# Altium integrated library Zilog Z8 Encore.IntLib: 188 symbols (part 2 of 5)
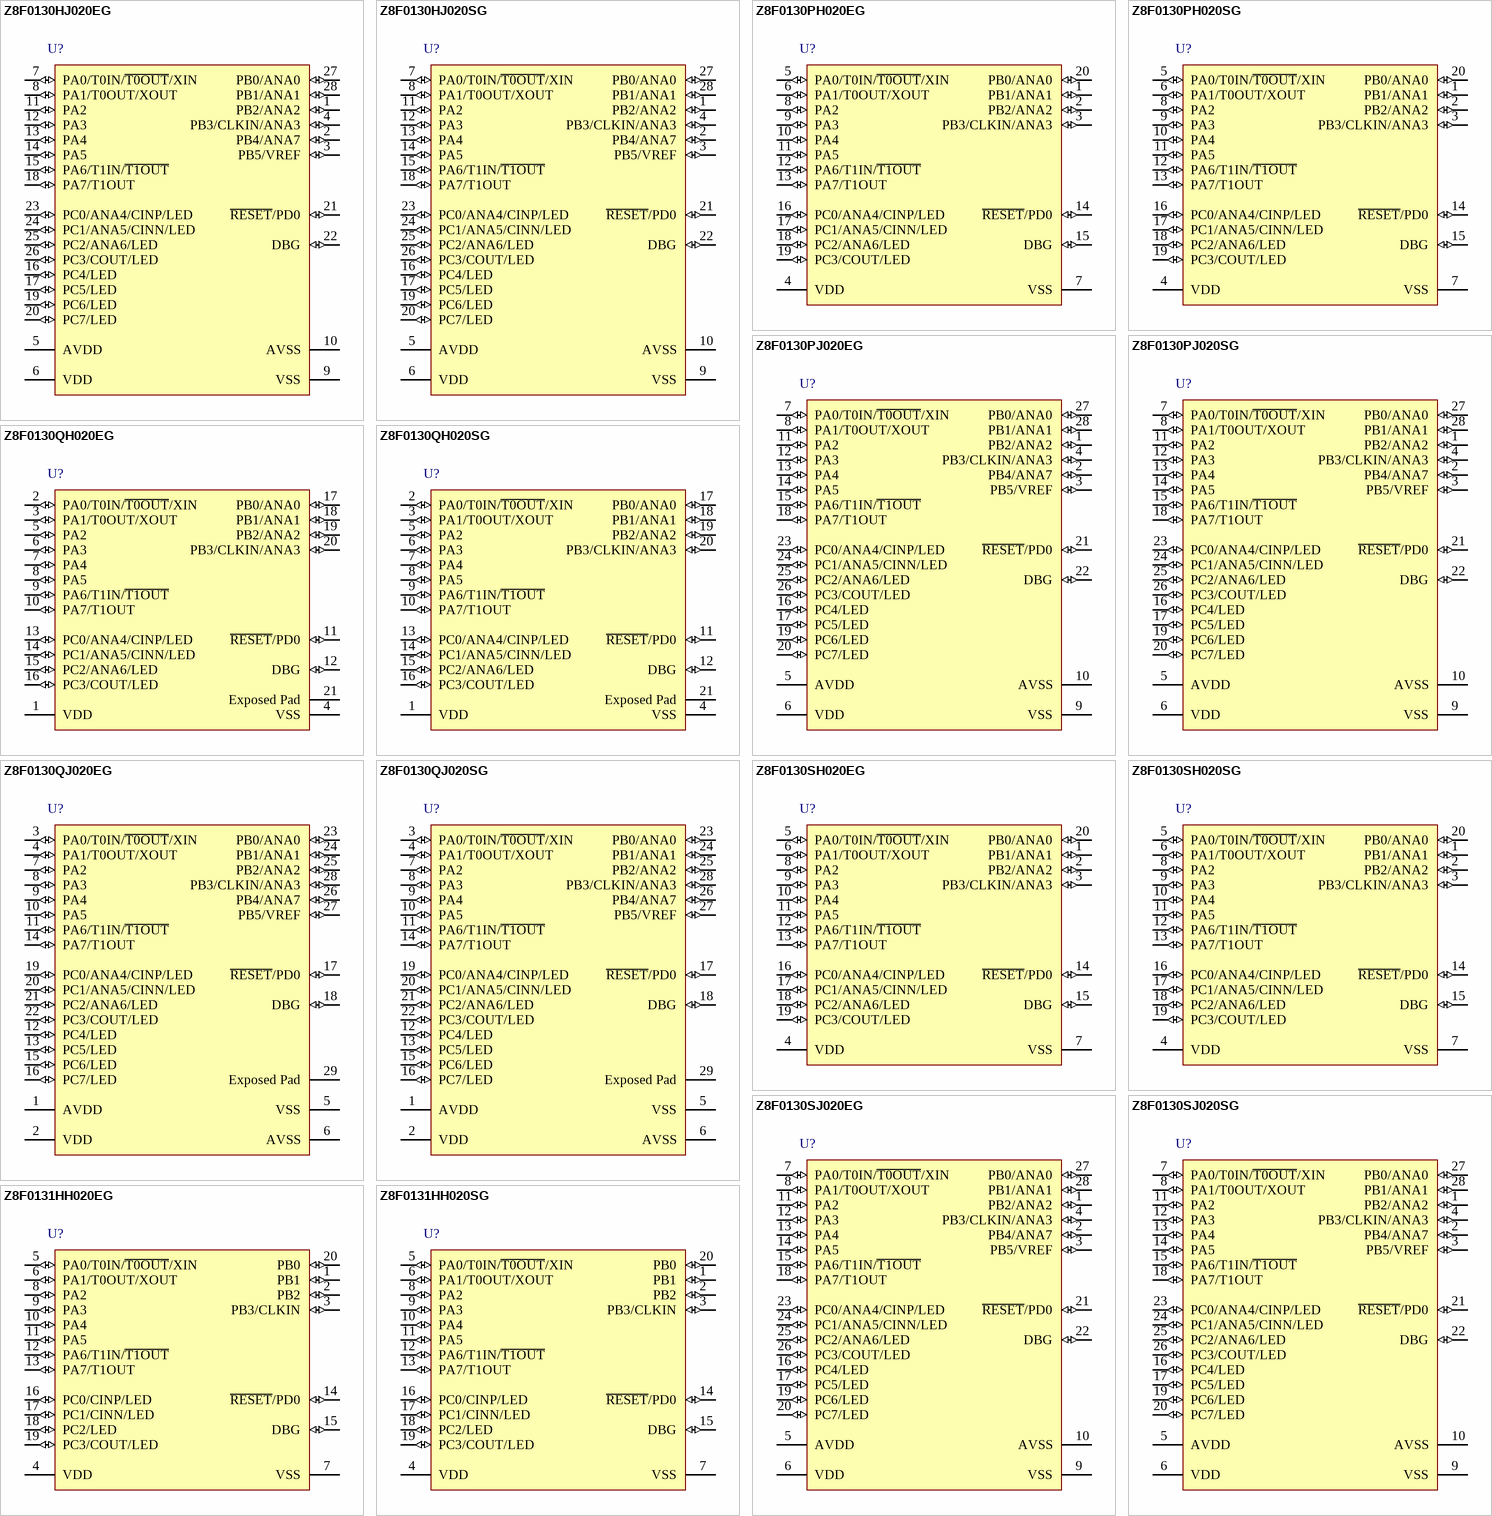
[diagram p12: symbols Z8F0130HJ020EG to Z8F0131HH020SG]

## Z8F0131HH020SG
designator U?
Z8 Encore, F0830 Series, 1KB Flash RAM, 256B register RAM, 64B NVDS, 20-Pin SSOP, 0°C to 70°C, Pb-Free; DatasheetVersion: rev11, Dec-2007; PackageVersion: 1/12/2007; PackageReference: SSOP20; PackageDescription: 20-Pin Plastic Shrink Small Outline Package 0.65 mm Pitch; ComponentLink1Description: Manufacturer URL; ComponentLink1URL: http://www.zilog.com/
footprint SSOP20_N (SOP, 20-Leads, Body 7.2x5.29mm, Pitch 0.65mm, IPC Medium Density)
footprint SSOP20_L (SOP, 20-Leads, Body 7.2x5.29mm, Pitch 0.65mm, IPC High Density)
footprint SSOP20_M (SOP, 20-Leads, Body 7.2x5.29mm, Pitch 0.65mm, IPC Low Density)
pins: 1 PB1 (io), 2 PB2 (io), 3 PB3/CLKIN (io), 4 VDD (power), 5 PA0/T0IN/~{T0OUT}/XIN (io), 6 PA1/T0OUT/XOUT (io), 7 VSS (power), 8 PA2 (io), 9 PA3 (io), 10 PA4 (io), 11 PA5 (io), 12 PA6/T1IN/~{T1OUT} (io), 13 PA7/T1OUT (io), 14 ~{RESET}/PD0 (io), 15 DBG (io), 16 PC0/CINP/LED (io), 17 PC1/CINN/LED (io), 18 PC2/LED (io), 19 PC3/COUT/LED (io), 20 PB0 (io)

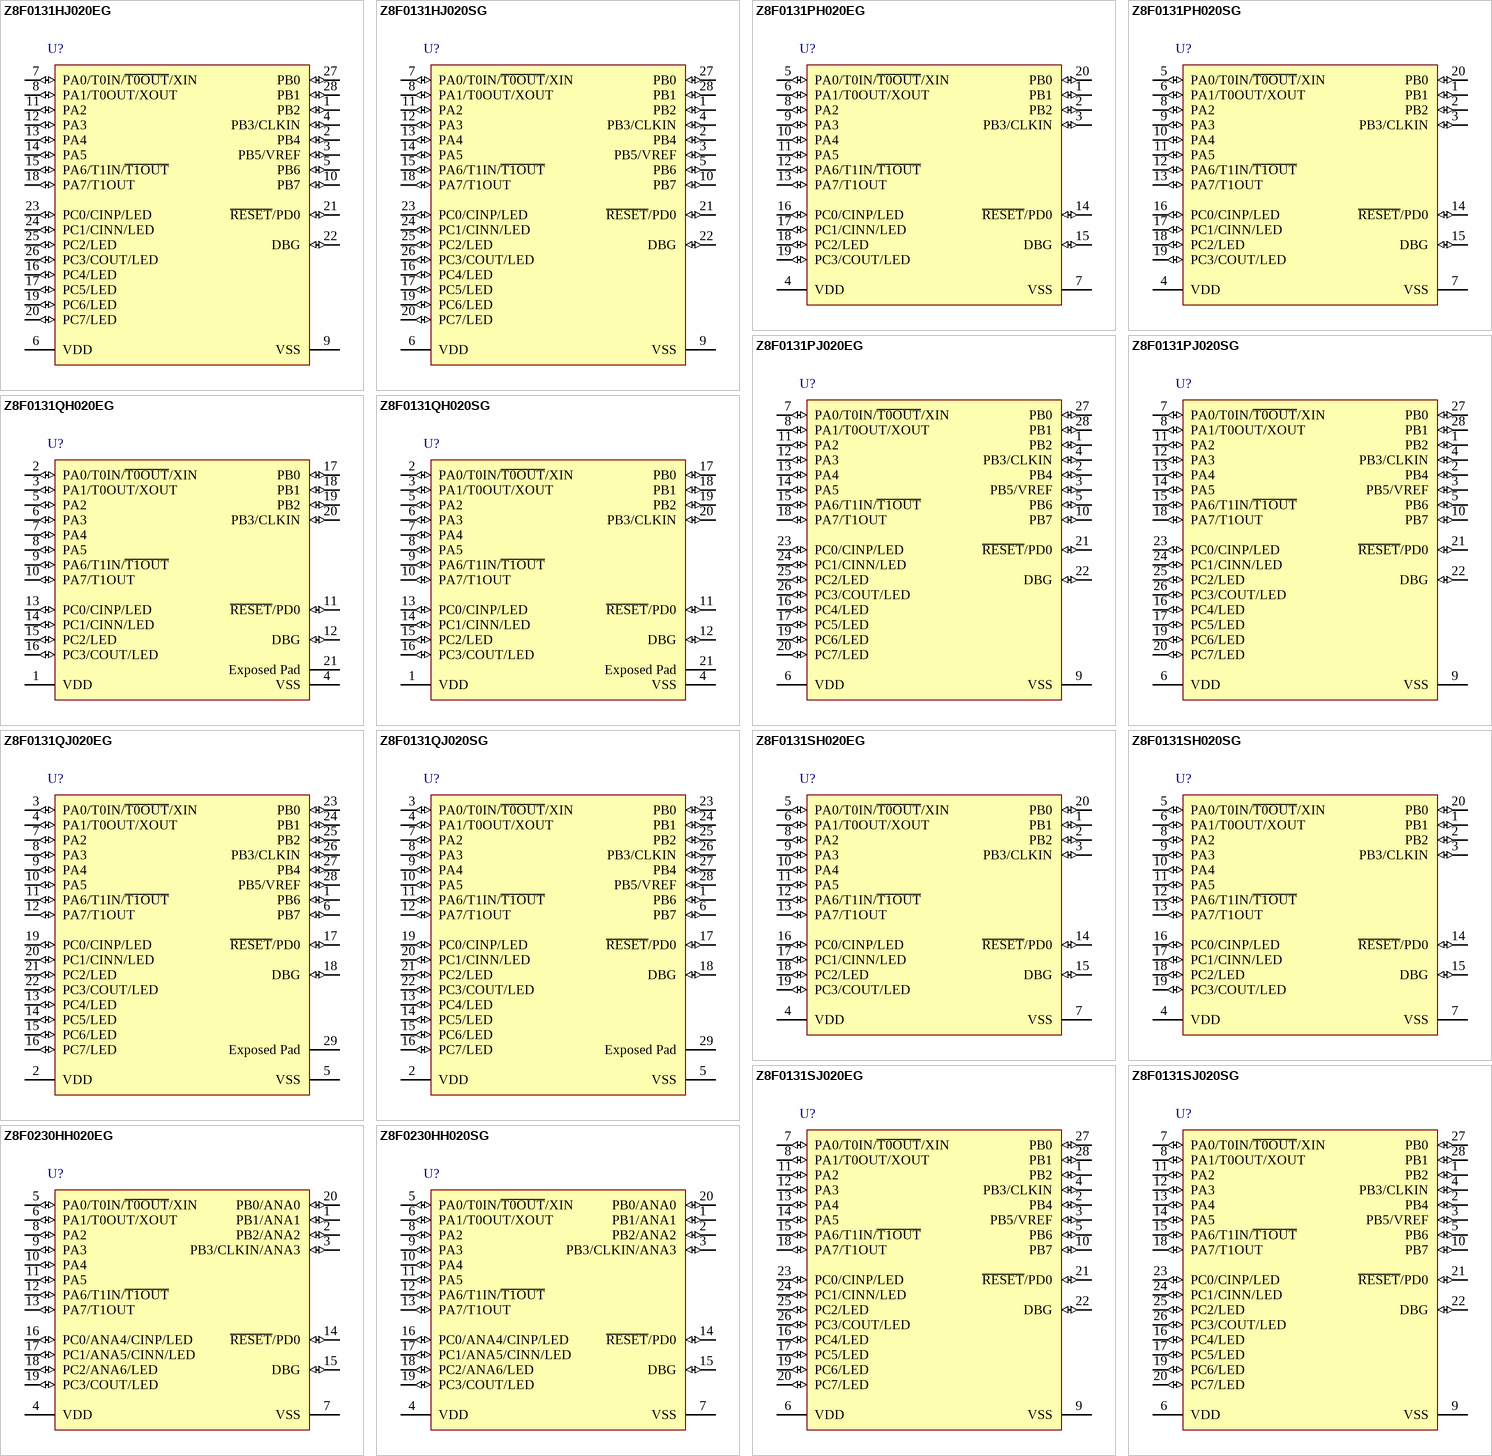
[diagram p3: symbols Z8F0131HJ020EG to Z8F0230HH020SG]

## Z8F0131HJ020EG
designator U?
Z8 Encore, F0830 Series, 1KB Flash RAM, 256B register RAM, 64B NVDS, 28-Pin SSOP, -40°C to 105°C, Pb-Free; DatasheetVersion: rev11, Dec-2007; PackageVersion: 1/12/2007; PackageReference: SSOP28; PackageDescription: 28-Pin Plastic Shrink Small Outline Package 0.65 mm Pitch; ComponentLink1Description: Manufacturer URL; ComponentLink1URL: http://www.zilog.com/
footprint SSOP28_N (SOP, 28-Leads, Body 10.2x5.29mm, Pitch 0.65mm, IPC Medium Density)
footprint SSOP28_L (SOP, 28-Leads, Body 10.2x5.29mm, Pitch 0.65mm, IPC High Density)
footprint SSOP28_M (SOP, 28-Leads, Body 10.2x5.29mm, Pitch 0.65mm, IPC Low Density)
pins: 1 PB2 (io), 2 PB4 (io), 3 PB5/VREF (io), 4 PB3/CLKIN (io), 5 PB6 (io), 6 VDD (power), 7 PA0/T0IN/~{T0OUT}/XIN (io), 8 PA1/T0OUT/XOUT (io), 9 VSS (power), 10 PB7 (io), 11 PA2 (io), 12 PA3 (io), 13 PA4 (io), 14 PA5 (io), 15 PA6/T1IN/~{T1OUT} (io), 16 PC4/LED (io), 17 PC5/LED (io), 18 PA7/T1OUT (io), 19 PC6/LED (io), 20 PC7/LED (io), 21 ~{RESET}/PD0 (io), 22 DBG (io), 23 PC0/CINP/LED (io), 24 PC1/CINN/LED (io), 25 PC2/LED (io), 26 PC3/COUT/LED (io), 27 PB0 (io), 28 PB1 (io)

## Z8F0131HJ020SG
designator U?
Z8 Encore, F0830 Series, 1KB Flash RAM, 256B register RAM, 64B NVDS, 28-Pin SSOP, 0°C to 70°C, Pb-Free; DatasheetVersion: rev11, Dec-2007; PackageVersion: 1/12/2007; PackageReference: SSOP28; PackageDescription: 28-Pin Plastic Shrink Small Outline Package 0.65 mm Pitch; ComponentLink1Description: Manufacturer URL; ComponentLink1URL: http://www.zilog.com/
footprint SSOP28_N (SOP, 28-Leads, Body 10.2x5.29mm, Pitch 0.65mm, IPC Medium Density)
footprint SSOP28_L (SOP, 28-Leads, Body 10.2x5.29mm, Pitch 0.65mm, IPC High Density)
footprint SSOP28_M (SOP, 28-Leads, Body 10.2x5.29mm, Pitch 0.65mm, IPC Low Density)
pins: 1 PB2 (io), 2 PB4 (io), 3 PB5/VREF (io), 4 PB3/CLKIN (io), 5 PB6 (io), 6 VDD (power), 7 PA0/T0IN/~{T0OUT}/XIN (io), 8 PA1/T0OUT/XOUT (io), 9 VSS (power), 10 PB7 (io), 11 PA2 (io), 12 PA3 (io), 13 PA4 (io), 14 PA5 (io), 15 PA6/T1IN/~{T1OUT} (io), 16 PC4/LED (io), 17 PC5/LED (io), 18 PA7/T1OUT (io), 19 PC6/LED (io), 20 PC7/LED (io), 21 ~{RESET}/PD0 (io), 22 DBG (io), 23 PC0/CINP/LED (io), 24 PC1/CINN/LED (io), 25 PC2/LED (io), 26 PC3/COUT/LED (io), 27 PB0 (io), 28 PB1 (io)

## Z8F0131PH020EG
designator U?
Z8 Encore, F0830 Series, 1KB Flash RAM, 256B register RAM, 64B NVDS, 20-Pin PDIP, -40°C to 105°C, Pb-Free; DatasheetVersion: rev11, Dec-2007; PackageVersion: 1/12/2007; PackageReference: PDIP20; PackageDescription: 20-Pin Plastic Dual Inline Package, Row Spacing 7.62 mm, Pitch 2.54 mm; ComponentLink1Description: Manufacturer URL; ComponentLink1URL: http://www.zilog.com/
footprint PDIP20 (DIP, 20-Leads, Row Spacing 7.62mm, Pitch 2.54mm, Body 26.2x6.4mm)
pins: 1 PB1 (io), 2 PB2 (io), 3 PB3/CLKIN (io), 4 VDD (power), 5 PA0/T0IN/~{T0OUT}/XIN (io), 6 PA1/T0OUT/XOUT (io), 7 VSS (power), 8 PA2 (io), 9 PA3 (io), 10 PA4 (io), 11 PA5 (io), 12 PA6/T1IN/~{T1OUT} (io), 13 PA7/T1OUT (io), 14 ~{RESET}/PD0 (io), 15 DBG (io), 16 PC0/CINP/LED (io), 17 PC1/CINN/LED (io), 18 PC2/LED (io), 19 PC3/COUT/LED (io), 20 PB0 (io)

## Z8F0131PH020SG
designator U?
Z8 Encore, F0830 Series, 1KB Flash RAM, 256B register RAM, 64B NVDS, 20-Pin PDIP, 0°C to 70°C, Pb-Free; DatasheetVersion: rev11, Dec-2007; PackageVersion: 1/12/2007; PackageReference: PDIP20; PackageDescription: 20-Pin Plastic Dual Inline Package, Row Spacing 7.62 mm, Pitch 2.54 mm; ComponentLink1Description: Manufacturer URL; ComponentLink1URL: http://www.zilog.com/
footprint PDIP20 (DIP, 20-Leads, Row Spacing 7.62mm, Pitch 2.54mm, Body 26.2x6.4mm)
pins: 1 PB1 (io), 2 PB2 (io), 3 PB3/CLKIN (io), 4 VDD (power), 5 PA0/T0IN/~{T0OUT}/XIN (io), 6 PA1/T0OUT/XOUT (io), 7 VSS (power), 8 PA2 (io), 9 PA3 (io), 10 PA4 (io), 11 PA5 (io), 12 PA6/T1IN/~{T1OUT} (io), 13 PA7/T1OUT (io), 14 ~{RESET}/PD0 (io), 15 DBG (io), 16 PC0/CINP/LED (io), 17 PC1/CINN/LED (io), 18 PC2/LED (io), 19 PC3/COUT/LED (io), 20 PB0 (io)

## Z8F0131PJ020EG
designator U?
Z8 Encore, F0830 Series, 1KB Flash RAM, 256B register RAM, 64B NVDS, 28-Pin PDIP, -40°C to 105°C, Pb-Free; DatasheetVersion: rev11, Dec-2007; PackageVersion: 1/12/2007; PackageReference: PDIP28; PackageDescription: 28-Pin Plastic Dual Inline Package, Row Spacing 15.24 mm, Pitch 2.54 mm; ComponentLink1Description: Manufacturer URL; ComponentLink1URL: http://www.zilog.com/
footprint PDIP28 (DIP, 28-Leads, Row Spacing 15.24mm, Pitch 2.54mm, Body 37x13.8mm)
pins: 1 PB2 (io), 2 PB4 (io), 3 PB5/VREF (io), 4 PB3/CLKIN (io), 5 PB6 (io), 6 VDD (power), 7 PA0/T0IN/~{T0OUT}/XIN (io), 8 PA1/T0OUT/XOUT (io), 9 VSS (power), 10 PB7 (io), 11 PA2 (io), 12 PA3 (io), 13 PA4 (io), 14 PA5 (io), 15 PA6/T1IN/~{T1OUT} (io), 16 PC4/LED (io), 17 PC5/LED (io), 18 PA7/T1OUT (io), 19 PC6/LED (io), 20 PC7/LED (io), 21 ~{RESET}/PD0 (io), 22 DBG (io), 23 PC0/CINP/LED (io), 24 PC1/CINN/LED (io), 25 PC2/LED (io), 26 PC3/COUT/LED (io), 27 PB0 (io), 28 PB1 (io)

## Z8F0131PJ020SG
designator U?
Z8 Encore, F0830 Series, 1KB Flash RAM, 256B register RAM, 64B NVDS, 28-Pin PDIP, 0°C to 70°C, Pb-Free; DatasheetVersion: rev11, Dec-2007; PackageVersion: 1/12/2007; PackageReference: PDIP28; PackageDescription: 28-Pin Plastic Dual Inline Package, Row Spacing 15.24 mm, Pitch 2.54 mm; ComponentLink1Description: Manufacturer URL; ComponentLink1URL: http://www.zilog.com/
footprint PDIP28 (DIP, 28-Leads, Row Spacing 15.24mm, Pitch 2.54mm, Body 37x13.8mm)
pins: 1 PB2 (io), 2 PB4 (io), 3 PB5/VREF (io), 4 PB3/CLKIN (io), 5 PB6 (io), 6 VDD (power), 7 PA0/T0IN/~{T0OUT}/XIN (io), 8 PA1/T0OUT/XOUT (io), 9 VSS (power), 10 PB7 (io), 11 PA2 (io), 12 PA3 (io), 13 PA4 (io), 14 PA5 (io), 15 PA6/T1IN/~{T1OUT} (io), 16 PC4/LED (io), 17 PC5/LED (io), 18 PA7/T1OUT (io), 19 PC6/LED (io), 20 PC7/LED (io), 21 ~{RESET}/PD0 (io), 22 DBG (io), 23 PC0/CINP/LED (io), 24 PC1/CINN/LED (io), 25 PC2/LED (io), 26 PC3/COUT/LED (io), 27 PB0 (io), 28 PB1 (io)

## Z8F0131QH020EG
designator U?
Z8 Encore, F0830 Series, 1KB Flash RAM, 256B register RAM, 64B NVDS, 20-Pin QFN, -40°C to 105°C, Pb-Free; DatasheetVersion: rev11, Dec-2007; PackageVersion: 1/12/2007; PackageReference: QFN20; PackageDescription: 20-Pin Quad Flat No-Lead 0.65 mm Pitch; ComponentLink1Description: Manufacturer URL; ComponentLink1URL: http://www.zilog.com/
footprint QFN20_N (QFN, 20-Leads, Body 5x5mm, Pitch 0.65mm, Thermal Pad 3.4x3.4mm, IPC Medium Density)
footprint QFN20_L (QFN, 20-Leads, Body 5x5mm, Pitch 0.65mm, Thermal Pad 3.4x3.4mm, IPC High Density)
footprint QFN20_M (QFN, 20-Leads, Body 5x5mm, Pitch 0.65mm, Thermal Pad 3.4x3.4mm, IPC Low Density)
pins: 1 VDD (power), 2 PA0/T0IN/~{T0OUT}/XIN (io), 3 PA1/T0OUT/XOUT (io), 4 VSS (power), 5 PA2 (io), 6 PA3 (io), 7 PA4 (io), 8 PA5 (io), 9 PA6/T1IN/~{T1OUT} (io), 10 PA7/T1OUT (io), 11 ~{RESET}/PD0 (io), 12 DBG (io), 13 PC0/CINP/LED (io), 14 PC1/CINN/LED (io), 15 PC2/LED (io), 16 PC3/COUT/LED (io), 17 PB0 (io), 18 PB1 (io), 19 PB2 (io), 20 PB3/CLKIN (io), 21 Exposed Pad (power)

## Z8F0131QH020SG
designator U?
Z8 Encore, F0830 Series, 1KB Flash RAM, 256B register RAM, 64B NVDS, 20-Pin QFN, 0°C to 70°C, Pb-Free; DatasheetVersion: rev11, Dec-2007; PackageVersion: 1/12/2007; PackageReference: QFN20; PackageDescription: 20-Pin Quad Flat No-Lead 0.65 mm Pitch; ComponentLink1Description: Manufacturer URL; ComponentLink1URL: http://www.zilog.com/
footprint QFN20_N (QFN, 20-Leads, Body 5x5mm, Pitch 0.65mm, Thermal Pad 3.4x3.4mm, IPC Medium Density)
footprint QFN20_L (QFN, 20-Leads, Body 5x5mm, Pitch 0.65mm, Thermal Pad 3.4x3.4mm, IPC High Density)
footprint QFN20_M (QFN, 20-Leads, Body 5x5mm, Pitch 0.65mm, Thermal Pad 3.4x3.4mm, IPC Low Density)
pins: 1 VDD (power), 2 PA0/T0IN/~{T0OUT}/XIN (io), 3 PA1/T0OUT/XOUT (io), 4 VSS (power), 5 PA2 (io), 6 PA3 (io), 7 PA4 (io), 8 PA5 (io), 9 PA6/T1IN/~{T1OUT} (io), 10 PA7/T1OUT (io), 11 ~{RESET}/PD0 (io), 12 DBG (io), 13 PC0/CINP/LED (io), 14 PC1/CINN/LED (io), 15 PC2/LED (io), 16 PC3/COUT/LED (io), 17 PB0 (io), 18 PB1 (io), 19 PB2 (io), 20 PB3/CLKIN (io), 21 Exposed Pad (power)

## Z8F0131QJ020EG
designator U?
Z8 Encore, F0830 Series, 1KB Flash RAM, 256B register RAM, 64B NVDS, 28-Pin QFN, -40°C to 105°C, Pb-Free; DatasheetVersion: rev11, Dec-2007; PackageVersion: 1/09/2010; PackageReference: QFN28; PackageDescription: 28-Pin Quad Flat No-Lead, 5 x 5 mm Body, 0.5 mm Pitch; ComponentLink1Description: Manufacturer URL; ComponentLink1URL: http://www.zilog.com/
footprint QFN28_N (QFN, 28-Leads, Body 5x5mm, Pitch 0.5mm, Thermal Pad 3.4x3.4mm, IPC Medium Density)
footprint QFN28_L (QFN, 28-Leads, Body 5x5mm, Pitch 0.5mm, Thermal Pad 3.4x3.4mm, IPC High Density)
footprint QFN28_M (QFN, 28-Leads, Body 5x5mm, Pitch 0.5mm, Thermal Pad 3.4x3.4mm, IPC Low Density)
pins: 1 PB6 (io), 2 VDD (power), 3 PA0/T0IN/~{T0OUT}/XIN (io), 4 PA1/T0OUT/XOUT (io), 5 VSS (power), 6 PB7 (io), 7 PA2 (io), 8 PA3 (io), 9 PA4 (io), 10 PA5 (io), 11 PA6/T1IN/~{T1OUT} (io), 12 PA7/T1OUT (io), 13 PC4/LED (io), 14 PC5/LED (io), 15 PC6/LED (io), 16 PC7/LED (io), 17 ~{RESET}/PD0 (io), 18 DBG (io), 19 PC0/CINP/LED (io), 20 PC1/CINN/LED (io), 21 PC2/LED (io), 22 PC3/COUT/LED (io), 23 PB0 (io), 24 PB1 (io), 25 PB2 (io), 26 PB3/CLKIN (io), 27 PB4 (io), 28 PB5/VREF (io), 29 Exposed Pad (power)

## Z8F0131QJ020SG
designator U?
Z8 Encore, F0830 Series, 1KB Flash RAM, 256B register RAM, 64B NVDS, 28-Pin QFN, 0°C to 70°C, Pb-Free; DatasheetVersion: rev11, Dec-2007; PackageVersion: 1/09/2010; PackageReference: QFN28; PackageDescription: 28-Pin Quad Flat No-Lead, 5 x 5 mm Body, 0.5 mm Pitch; ComponentLink1Description: Manufacturer URL; ComponentLink1URL: http://www.zilog.com/
footprint QFN28_N (QFN, 28-Leads, Body 5x5mm, Pitch 0.5mm, Thermal Pad 3.4x3.4mm, IPC Medium Density)
footprint QFN28_L (QFN, 28-Leads, Body 5x5mm, Pitch 0.5mm, Thermal Pad 3.4x3.4mm, IPC High Density)
footprint QFN28_M (QFN, 28-Leads, Body 5x5mm, Pitch 0.5mm, Thermal Pad 3.4x3.4mm, IPC Low Density)
pins: 1 PB6 (io), 2 VDD (power), 3 PA0/T0IN/~{T0OUT}/XIN (io), 4 PA1/T0OUT/XOUT (io), 5 VSS (power), 6 PB7 (io), 7 PA2 (io), 8 PA3 (io), 9 PA4 (io), 10 PA5 (io), 11 PA6/T1IN/~{T1OUT} (io), 12 PA7/T1OUT (io), 13 PC4/LED (io), 14 PC5/LED (io), 15 PC6/LED (io), 16 PC7/LED (io), 17 ~{RESET}/PD0 (io), 18 DBG (io), 19 PC0/CINP/LED (io), 20 PC1/CINN/LED (io), 21 PC2/LED (io), 22 PC3/COUT/LED (io), 23 PB0 (io), 24 PB1 (io), 25 PB2 (io), 26 PB3/CLKIN (io), 27 PB4 (io), 28 PB5/VREF (io), 29 Exposed Pad (power)

## Z8F0131SH020EG
designator U?
Z8 Encore, F0830 Series, 1KB Flash RAM, 256B register RAM, 64B NVDS, 20-Pin SOIC, -40°C to 105°C, Pb-Free; DatasheetVersion: rev11, Dec-2007; PackageVersion: 1/12/2007; PackageReference: SOIC20; PackageDescription: 20-Pin Small Outline Integrated Circuit 1.27 mm Pitch; ComponentLink1Description: Manufacturer URL; ComponentLink1URL: http://www.zilog.com/
footprint SOIC20_N (SOIC, 20-Leads, Body 12.8x7.5mm, Pitch 1.27mm, IPC Medium Density)
footprint SOIC20_L (SOIC, 20-Leads, Body 12.8x7.5mm, Pitch 1.27mm, IPC High Density)
footprint SOIC20_M (SOIC, 20-Leads, Body 12.8x7.5mm, Pitch 1.27mm, IPC Low Density)
pins: 1 PB1 (io), 2 PB2 (io), 3 PB3/CLKIN (io), 4 VDD (power), 5 PA0/T0IN/~{T0OUT}/XIN (io), 6 PA1/T0OUT/XOUT (io), 7 VSS (power), 8 PA2 (io), 9 PA3 (io), 10 PA4 (io), 11 PA5 (io), 12 PA6/T1IN/~{T1OUT} (io), 13 PA7/T1OUT (io), 14 ~{RESET}/PD0 (io), 15 DBG (io), 16 PC0/CINP/LED (io), 17 PC1/CINN/LED (io), 18 PC2/LED (io), 19 PC3/COUT/LED (io), 20 PB0 (io)

## Z8F0131SH020SG
designator U?
Z8 Encore, F0830 Series, 1KB Flash RAM, 256B register RAM, 64B NVDS, 20-Pin SOIC, 0°C to 70°C, Pb-Free; DatasheetVersion: rev11, Dec-2007; PackageVersion: 1/12/2007; PackageReference: SOIC20; PackageDescription: 20-Pin Small Outline Integrated Circuit 1.27 mm Pitch; ComponentLink1Description: Manufacturer URL; ComponentLink1URL: http://www.zilog.com/
footprint SOIC20_N (SOIC, 20-Leads, Body 12.8x7.5mm, Pitch 1.27mm, IPC Medium Density)
footprint SOIC20_L (SOIC, 20-Leads, Body 12.8x7.5mm, Pitch 1.27mm, IPC High Density)
footprint SOIC20_M (SOIC, 20-Leads, Body 12.8x7.5mm, Pitch 1.27mm, IPC Low Density)
pins: 1 PB1 (io), 2 PB2 (io), 3 PB3/CLKIN (io), 4 VDD (power), 5 PA0/T0IN/~{T0OUT}/XIN (io), 6 PA1/T0OUT/XOUT (io), 7 VSS (power), 8 PA2 (io), 9 PA3 (io), 10 PA4 (io), 11 PA5 (io), 12 PA6/T1IN/~{T1OUT} (io), 13 PA7/T1OUT (io), 14 ~{RESET}/PD0 (io), 15 DBG (io), 16 PC0/CINP/LED (io), 17 PC1/CINN/LED (io), 18 PC2/LED (io), 19 PC3/COUT/LED (io), 20 PB0 (io)

## Z8F0131SJ020EG
designator U?
Z8 Encore, F0830 Series, 1KB Flash RAM, 256B register RAM, 64B NVDS, 28-Pin SOIC, -40°C to 105°C, Pb-Free; DatasheetVersion: rev11, Dec-2007; PackageVersion: 1/12/2007; PackageReference: SOIC28; PackageDescription: 28-Pin Small Outline Integrated Circuit 1.27 mm Pitch; ComponentLink1Description: Manufacturer URL; ComponentLink1URL: http://www.zilog.com/
footprint SOIC28_N (SOIC, 28-Leads, Body 17.9x7.5mm, Pitch 1.27mm, IPC Medium Density)
footprint SOIC28_L (SOIC, 28-Leads, Body 17.9x7.5mm, Pitch 1.27mm, IPC High Density)
footprint SOIC28_M (SOIC, 28-Leads, Body 17.9x7.5mm, Pitch 1.27mm, IPC Low Density)
pins: 1 PB2 (io), 2 PB4 (io), 3 PB5/VREF (io), 4 PB3/CLKIN (io), 5 PB6 (io), 6 VDD (power), 7 PA0/T0IN/~{T0OUT}/XIN (io), 8 PA1/T0OUT/XOUT (io), 9 VSS (power), 10 PB7 (io), 11 PA2 (io), 12 PA3 (io), 13 PA4 (io), 14 PA5 (io), 15 PA6/T1IN/~{T1OUT} (io), 16 PC4/LED (io), 17 PC5/LED (io), 18 PA7/T1OUT (io), 19 PC6/LED (io), 20 PC7/LED (io), 21 ~{RESET}/PD0 (io), 22 DBG (io), 23 PC0/CINP/LED (io), 24 PC1/CINN/LED (io), 25 PC2/LED (io), 26 PC3/COUT/LED (io), 27 PB0 (io), 28 PB1 (io)

## Z8F0131SJ020SG
designator U?
Z8 Encore, F0830 Series, 1KB Flash RAM, 256B register RAM, 64B NVDS, 28-Pin SOIC, 0°C to 70°C, Pb-Free; DatasheetVersion: rev11, Dec-2007; PackageVersion: 1/12/2007; PackageReference: SOIC28; PackageDescription: 28-Pin Small Outline Integrated Circuit 1.27 mm Pitch; ComponentLink1Description: Manufacturer URL; ComponentLink1URL: http://www.zilog.com/
footprint SOIC28_N (SOIC, 28-Leads, Body 17.9x7.5mm, Pitch 1.27mm, IPC Medium Density)
footprint SOIC28_L (SOIC, 28-Leads, Body 17.9x7.5mm, Pitch 1.27mm, IPC High Density)
footprint SOIC28_M (SOIC, 28-Leads, Body 17.9x7.5mm, Pitch 1.27mm, IPC Low Density)
pins: 1 PB2 (io), 2 PB4 (io), 3 PB5/VREF (io), 4 PB3/CLKIN (io), 5 PB6 (io), 6 VDD (power), 7 PA0/T0IN/~{T0OUT}/XIN (io), 8 PA1/T0OUT/XOUT (io), 9 VSS (power), 10 PB7 (io), 11 PA2 (io), 12 PA3 (io), 13 PA4 (io), 14 PA5 (io), 15 PA6/T1IN/~{T1OUT} (io), 16 PC4/LED (io), 17 PC5/LED (io), 18 PA7/T1OUT (io), 19 PC6/LED (io), 20 PC7/LED (io), 21 ~{RESET}/PD0 (io), 22 DBG (io), 23 PC0/CINP/LED (io), 24 PC1/CINN/LED (io), 25 PC2/LED (io), 26 PC3/COUT/LED (io), 27 PB0 (io), 28 PB1 (io)

## Z8F0230HH020EG
designator U?
Z8 Encore, F0830 Series, 2KB Flash RAM, 256B register RAM, 64B NVDS, 7 ADC Channels, 20-Pin SSOP, -40°C to 105°C, Pb-Free; DatasheetVersion: rev11, Dec-2007; PackageVersion: 1/12/2007; PackageReference: SSOP20; PackageDescription: 20-Pin Plastic Shrink Small Outline Package 0.65 mm Pitch; ComponentLink1Description: Manufacturer URL; ComponentLink1URL: http://www.zilog.com/
footprint SSOP20_N (SOP, 20-Leads, Body 7.2x5.29mm, Pitch 0.65mm, IPC Medium Density)
footprint SSOP20_L (SOP, 20-Leads, Body 7.2x5.29mm, Pitch 0.65mm, IPC High Density)
footprint SSOP20_M (SOP, 20-Leads, Body 7.2x5.29mm, Pitch 0.65mm, IPC Low Density)
pins: 1 PB1/ANA1 (io), 2 PB2/ANA2 (io), 3 PB3/CLKIN/ANA3 (io), 4 VDD (power), 5 PA0/T0IN/~{T0OUT}/XIN (io), 6 PA1/T0OUT/XOUT (io), 7 VSS (power), 8 PA2 (io), 9 PA3 (io), 10 PA4 (io), 11 PA5 (io), 12 PA6/T1IN/~{T1OUT} (io), 13 PA7/T1OUT (io), 14 ~{RESET}/PD0 (io), 15 DBG (io), 16 PC0/ANA4/CINP/LED (io), 17 PC1/ANA5/CINN/LED (io), 18 PC2/ANA6/LED (io), 19 PC3/COUT/LED (io), 20 PB0/ANA0 (io)

## Z8F0230HH020SG
designator U?
Z8 Encore, F0830 Series, 2KB Flash RAM, 256B register RAM, 64B NVDS, 7 ADC Channels, 20-Pin SSOP, 0°C to 70°C, Pb-Free; DatasheetVersion: rev11, Dec-2007; PackageVersion: 1/12/2007; PackageReference: SSOP20; PackageDescription: 20-Pin Plastic Shrink Small Outline Package 0.65 mm Pitch; ComponentLink1Description: Manufacturer URL; ComponentLink1URL: http://www.zilog.com/
footprint SSOP20_N (SOP, 20-Leads, Body 7.2x5.29mm, Pitch 0.65mm, IPC Medium Density)
footprint SSOP20_L (SOP, 20-Leads, Body 7.2x5.29mm, Pitch 0.65mm, IPC High Density)
footprint SSOP20_M (SOP, 20-Leads, Body 7.2x5.29mm, Pitch 0.65mm, IPC Low Density)
pins: 1 PB1/ANA1 (io), 2 PB2/ANA2 (io), 3 PB3/CLKIN/ANA3 (io), 4 VDD (power), 5 PA0/T0IN/~{T0OUT}/XIN (io), 6 PA1/T0OUT/XOUT (io), 7 VSS (power), 8 PA2 (io), 9 PA3 (io), 10 PA4 (io), 11 PA5 (io), 12 PA6/T1IN/~{T1OUT} (io), 13 PA7/T1OUT (io), 14 ~{RESET}/PD0 (io), 15 DBG (io), 16 PC0/ANA4/CINP/LED (io), 17 PC1/ANA5/CINN/LED (io), 18 PC2/ANA6/LED (io), 19 PC3/COUT/LED (io), 20 PB0/ANA0 (io)

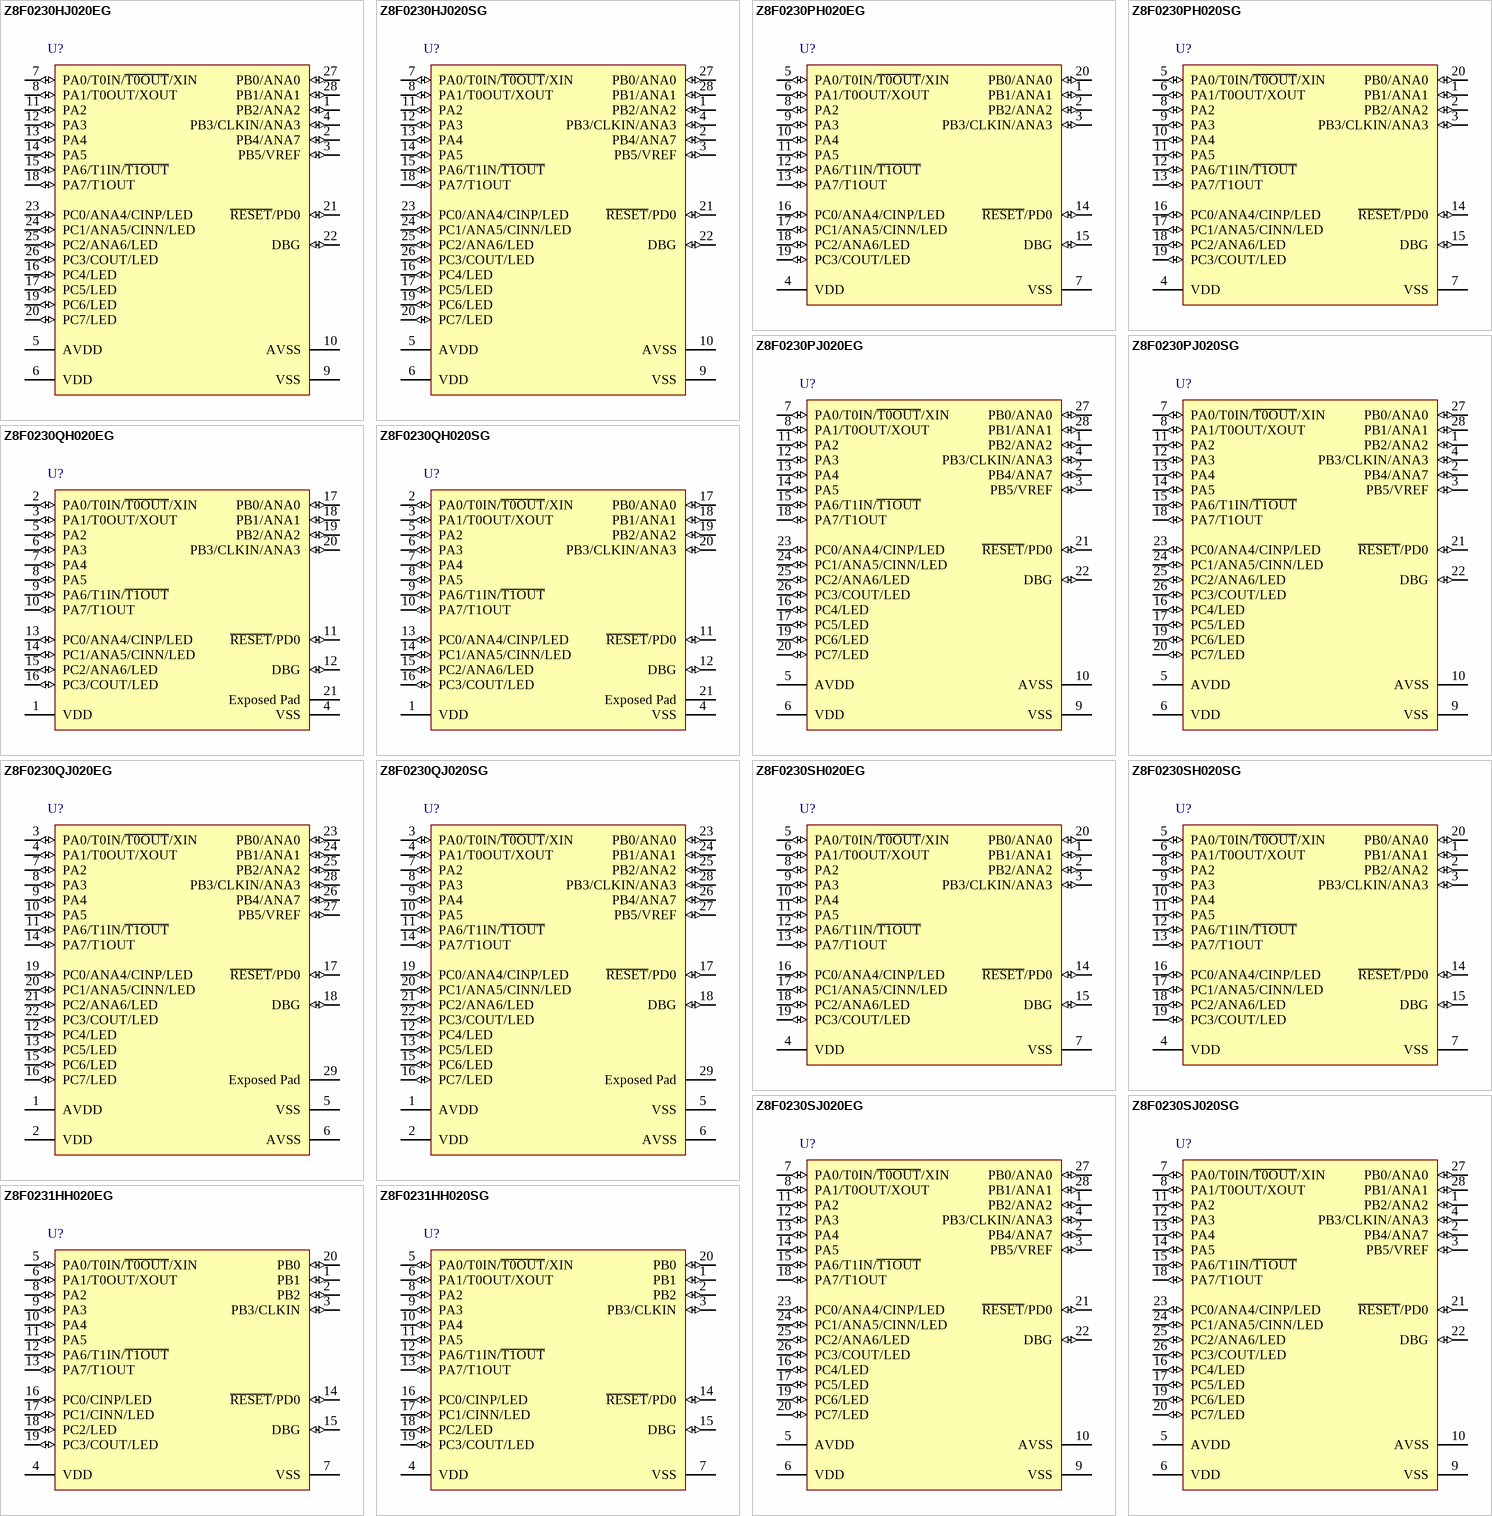
[diagram p4: symbols Z8F0230HJ020EG to Z8F0231HH020SG]

## Z8F0230HJ020EG
designator U?
Z8 Encore, F0830 Series, 2KB Flash RAM, 256B register RAM, 64B NVDS, 8 ADC Channels, 28-Pin SSOP, -40°C to 105°C, Pb-Free; DatasheetVersion: rev11, Dec-2007; PackageVersion: 1/12/2007; PackageReference: SSOP28; PackageDescription: 28-Pin Plastic Shrink Small Outline Package 0.65 mm Pitch; ComponentLink1Description: Manufacturer URL; ComponentLink1URL: http://www.zilog.com/
footprint SSOP28_N (SOP, 28-Leads, Body 10.2x5.29mm, Pitch 0.65mm, IPC Medium Density)
footprint SSOP28_L (SOP, 28-Leads, Body 10.2x5.29mm, Pitch 0.65mm, IPC High Density)
footprint SSOP28_M (SOP, 28-Leads, Body 10.2x5.29mm, Pitch 0.65mm, IPC Low Density)
pins: 1 PB2/ANA2 (io), 2 PB4/ANA7 (io), 3 PB5/VREF (io), 4 PB3/CLKIN/ANA3 (io), 5 AVDD (power), 6 VDD (power), 7 PA0/T0IN/~{T0OUT}/XIN (io), 8 PA1/T0OUT/XOUT (io), 9 VSS (power), 10 AVSS (power), 11 PA2 (io), 12 PA3 (io), 13 PA4 (io), 14 PA5 (io), 15 PA6/T1IN/~{T1OUT} (io), 16 PC4/LED (io), 17 PC5/LED (io), 18 PA7/T1OUT (io), 19 PC6/LED (io), 20 PC7/LED (io), 21 ~{RESET}/PD0 (io), 22 DBG (io), 23 PC0/ANA4/CINP/LED (io), 24 PC1/ANA5/CINN/LED (io), 25 PC2/ANA6/LED (io), 26 PC3/COUT/LED (io), 27 PB0/ANA0 (io), 28 PB1/ANA1 (io)

## Z8F0230HJ020SG
designator U?
Z8 Encore, F0830 Series, 2KB Flash RAM, 256B register RAM, 64B NVDS, 8 ADC Channels, 28-Pin SSOP, 0°C to 70°C, Pb-Free; DatasheetVersion: rev11, Dec-2007; PackageVersion: 1/12/2007; PackageReference: SSOP28; PackageDescription: 28-Pin Plastic Shrink Small Outline Package 0.65 mm Pitch; ComponentLink1Description: Manufacturer URL; ComponentLink1URL: http://www.zilog.com/
footprint SSOP28_N (SOP, 28-Leads, Body 10.2x5.29mm, Pitch 0.65mm, IPC Medium Density)
footprint SSOP28_L (SOP, 28-Leads, Body 10.2x5.29mm, Pitch 0.65mm, IPC High Density)
footprint SSOP28_M (SOP, 28-Leads, Body 10.2x5.29mm, Pitch 0.65mm, IPC Low Density)
pins: 1 PB2/ANA2 (io), 2 PB4/ANA7 (io), 3 PB5/VREF (io), 4 PB3/CLKIN/ANA3 (io), 5 AVDD (power), 6 VDD (power), 7 PA0/T0IN/~{T0OUT}/XIN (io), 8 PA1/T0OUT/XOUT (io), 9 VSS (power), 10 AVSS (power), 11 PA2 (io), 12 PA3 (io), 13 PA4 (io), 14 PA5 (io), 15 PA6/T1IN/~{T1OUT} (io), 16 PC4/LED (io), 17 PC5/LED (io), 18 PA7/T1OUT (io), 19 PC6/LED (io), 20 PC7/LED (io), 21 ~{RESET}/PD0 (io), 22 DBG (io), 23 PC0/ANA4/CINP/LED (io), 24 PC1/ANA5/CINN/LED (io), 25 PC2/ANA6/LED (io), 26 PC3/COUT/LED (io), 27 PB0/ANA0 (io), 28 PB1/ANA1 (io)

## Z8F0230PH020EG
designator U?
Z8 Encore, F0830 Series, 2KB Flash RAM, 256B register RAM, 64B NVDS, 7 ADC Channels, 20-Pin PDIP, -40°C to 105°C, Pb-Free; DatasheetVersion: rev11, Dec-2007; PackageVersion: 1/12/2007; PackageReference: PDIP20; PackageDescription: 20-Pin Plastic Dual Inline Package, Row Spacing 7.62 mm, Pitch 2.54 mm; ComponentLink1Description: Manufacturer URL; ComponentLink1URL: http://www.zilog.com/
footprint PDIP20 (DIP, 20-Leads, Row Spacing 7.62mm, Pitch 2.54mm, Body 26.2x6.4mm)
pins: 1 PB1/ANA1 (io), 2 PB2/ANA2 (io), 3 PB3/CLKIN/ANA3 (io), 4 VDD (power), 5 PA0/T0IN/~{T0OUT}/XIN (io), 6 PA1/T0OUT/XOUT (io), 7 VSS (power), 8 PA2 (io), 9 PA3 (io), 10 PA4 (io), 11 PA5 (io), 12 PA6/T1IN/~{T1OUT} (io), 13 PA7/T1OUT (io), 14 ~{RESET}/PD0 (io), 15 DBG (io), 16 PC0/ANA4/CINP/LED (io), 17 PC1/ANA5/CINN/LED (io), 18 PC2/ANA6/LED (io), 19 PC3/COUT/LED (io), 20 PB0/ANA0 (io)

## Z8F0230PH020SG
designator U?
Z8 Encore, F0830 Series, 2KB Flash RAM, 256B register RAM, 64B NVDS, 7 ADC Channels, 20-Pin PDIP, 0°C to 70°C, Pb-Free; DatasheetVersion: rev11, Dec-2007; PackageVersion: 1/12/2007; PackageReference: PDIP20; PackageDescription: 20-Pin Plastic Dual Inline Package, Row Spacing 7.62 mm, Pitch 2.54 mm; ComponentLink1Description: Manufacturer URL; ComponentLink1URL: http://www.zilog.com/
footprint PDIP20 (DIP, 20-Leads, Row Spacing 7.62mm, Pitch 2.54mm, Body 26.2x6.4mm)
pins: 1 PB1/ANA1 (io), 2 PB2/ANA2 (io), 3 PB3/CLKIN/ANA3 (io), 4 VDD (power), 5 PA0/T0IN/~{T0OUT}/XIN (io), 6 PA1/T0OUT/XOUT (io), 7 VSS (power), 8 PA2 (io), 9 PA3 (io), 10 PA4 (io), 11 PA5 (io), 12 PA6/T1IN/~{T1OUT} (io), 13 PA7/T1OUT (io), 14 ~{RESET}/PD0 (io), 15 DBG (io), 16 PC0/ANA4/CINP/LED (io), 17 PC1/ANA5/CINN/LED (io), 18 PC2/ANA6/LED (io), 19 PC3/COUT/LED (io), 20 PB0/ANA0 (io)

## Z8F0230PJ020EG
designator U?
Z8 Encore, F0830 Series, 2KB Flash RAM, 256B register RAM, 64B NVDS, 8 ADC Channels, 28-Pin PDIP, -40°C to 105°C, Pb-Free; DatasheetVersion: rev11, Dec-2007; PackageVersion: 1/12/2007; PackageReference: PDIP28; PackageDescription: 28-Pin Plastic Dual Inline Package, Row Spacing 15.24 mm, Pitch 2.54 mm; ComponentLink1Description: Manufacturer URL; ComponentLink1URL: http://www.zilog.com/
footprint PDIP28 (DIP, 28-Leads, Row Spacing 15.24mm, Pitch 2.54mm, Body 37x13.8mm)
pins: 1 PB2/ANA2 (io), 2 PB4/ANA7 (io), 3 PB5/VREF (io), 4 PB3/CLKIN/ANA3 (io), 5 AVDD (power), 6 VDD (power), 7 PA0/T0IN/~{T0OUT}/XIN (io), 8 PA1/T0OUT/XOUT (io), 9 VSS (power), 10 AVSS (power), 11 PA2 (io), 12 PA3 (io), 13 PA4 (io), 14 PA5 (io), 15 PA6/T1IN/~{T1OUT} (io), 16 PC4/LED (io), 17 PC5/LED (io), 18 PA7/T1OUT (io), 19 PC6/LED (io), 20 PC7/LED (io), 21 ~{RESET}/PD0 (io), 22 DBG (io), 23 PC0/ANA4/CINP/LED (io), 24 PC1/ANA5/CINN/LED (io), 25 PC2/ANA6/LED (io), 26 PC3/COUT/LED (io), 27 PB0/ANA0 (io), 28 PB1/ANA1 (io)

## Z8F0230PJ020SG
designator U?
Z8 Encore, F0830 Series, 2KB Flash RAM, 256B register RAM, 64B NVDS, 8 ADC Channels, 28-Pin PDIP, 0°C to 70°C, Pb-Free; DatasheetVersion: rev11, Dec-2007; PackageVersion: 1/12/2007; PackageReference: PDIP28; PackageDescription: 28-Pin Plastic Dual Inline Package, Row Spacing 15.24 mm, Pitch 2.54 mm; ComponentLink1Description: Manufacturer URL; ComponentLink1URL: http://www.zilog.com/
footprint PDIP28 (DIP, 28-Leads, Row Spacing 15.24mm, Pitch 2.54mm, Body 37x13.8mm)
pins: 1 PB2/ANA2 (io), 2 PB4/ANA7 (io), 3 PB5/VREF (io), 4 PB3/CLKIN/ANA3 (io), 5 AVDD (power), 6 VDD (power), 7 PA0/T0IN/~{T0OUT}/XIN (io), 8 PA1/T0OUT/XOUT (io), 9 VSS (power), 10 AVSS (power), 11 PA2 (io), 12 PA3 (io), 13 PA4 (io), 14 PA5 (io), 15 PA6/T1IN/~{T1OUT} (io), 16 PC4/LED (io), 17 PC5/LED (io), 18 PA7/T1OUT (io), 19 PC6/LED (io), 20 PC7/LED (io), 21 ~{RESET}/PD0 (io), 22 DBG (io), 23 PC0/ANA4/CINP/LED (io), 24 PC1/ANA5/CINN/LED (io), 25 PC2/ANA6/LED (io), 26 PC3/COUT/LED (io), 27 PB0/ANA0 (io), 28 PB1/ANA1 (io)

## Z8F0230QH020EG
designator U?
Z8 Encore, F0830 Series, 2KB Flash RAM, 256B register RAM, 64B NVDS, 7 ADC Channels, 20-Pin QFN, -40°C to 105°C, Pb-Free; DatasheetVersion: rev11, Dec-2007; PackageVersion: 1/12/2007; PackageReference: QFN20; PackageDescription: 20-Pin Quad Flat No-Lead 0.65 mm Pitch; ComponentLink1Description: Manufacturer URL; ComponentLink1URL: http://www.zilog.com/
footprint QFN20_N (QFN, 20-Leads, Body 5x5mm, Pitch 0.65mm, Thermal Pad 3.4x3.4mm, IPC Medium Density)
footprint QFN20_L (QFN, 20-Leads, Body 5x5mm, Pitch 0.65mm, Thermal Pad 3.4x3.4mm, IPC High Density)
footprint QFN20_M (QFN, 20-Leads, Body 5x5mm, Pitch 0.65mm, Thermal Pad 3.4x3.4mm, IPC Low Density)
pins: 1 VDD (power), 2 PA0/T0IN/~{T0OUT}/XIN (io), 3 PA1/T0OUT/XOUT (io), 4 VSS (power), 5 PA2 (io), 6 PA3 (io), 7 PA4 (io), 8 PA5 (io), 9 PA6/T1IN/~{T1OUT} (io), 10 PA7/T1OUT (io), 11 ~{RESET}/PD0 (io), 12 DBG (io), 13 PC0/ANA4/CINP/LED (io), 14 PC1/ANA5/CINN/LED (io), 15 PC2/ANA6/LED (io), 16 PC3/COUT/LED (io), 17 PB0/ANA0 (io), 18 PB1/ANA1 (io), 19 PB2/ANA2 (io), 20 PB3/CLKIN/ANA3 (io), 21 Exposed Pad (power)

## Z8F0230QH020SG
designator U?
Z8 Encore, F0830 Series, 2KB Flash RAM, 256B register RAM, 64B NVDS, 7 ADC Channels, 20-Pin QFN, 0°C to 70°C, Pb-Free; DatasheetVersion: rev11, Dec-2007; PackageVersion: 1/12/2007; PackageReference: QFN20; PackageDescription: 20-Pin Quad Flat No-Lead 0.65 mm Pitch; ComponentLink1Description: Manufacturer URL; ComponentLink1URL: http://www.zilog.com/
footprint QFN20_N (QFN, 20-Leads, Body 5x5mm, Pitch 0.65mm, Thermal Pad 3.4x3.4mm, IPC Medium Density)
footprint QFN20_L (QFN, 20-Leads, Body 5x5mm, Pitch 0.65mm, Thermal Pad 3.4x3.4mm, IPC High Density)
footprint QFN20_M (QFN, 20-Leads, Body 5x5mm, Pitch 0.65mm, Thermal Pad 3.4x3.4mm, IPC Low Density)
pins: 1 VDD (power), 2 PA0/T0IN/~{T0OUT}/XIN (io), 3 PA1/T0OUT/XOUT (io), 4 VSS (power), 5 PA2 (io), 6 PA3 (io), 7 PA4 (io), 8 PA5 (io), 9 PA6/T1IN/~{T1OUT} (io), 10 PA7/T1OUT (io), 11 ~{RESET}/PD0 (io), 12 DBG (io), 13 PC0/ANA4/CINP/LED (io), 14 PC1/ANA5/CINN/LED (io), 15 PC2/ANA6/LED (io), 16 PC3/COUT/LED (io), 17 PB0/ANA0 (io), 18 PB1/ANA1 (io), 19 PB2/ANA2 (io), 20 PB3/CLKIN/ANA3 (io), 21 Exposed Pad (power)

## Z8F0230QJ020EG
designator U?
Z8 Encore, F0830 Series, 2KB Flash RAM, 256B register RAM, 64B NVDS, 8 ADC Channels, 28-Pin QFN, -40°C to 105°C, Pb-Free; DatasheetVersion: rev11, Dec-2007; PackageVersion: 1/09/2010; PackageReference: QFN28; PackageDescription: 28-Pin Quad Flat No-Lead, 5 x 5 mm Body, 0.5 mm Pitch; ComponentLink1Description: Manufacturer URL; ComponentLink1URL: http://www.zilog.com/
footprint QFN28_N (QFN, 28-Leads, Body 5x5mm, Pitch 0.5mm, Thermal Pad 3.4x3.4mm, IPC Medium Density)
footprint QFN28_L (QFN, 28-Leads, Body 5x5mm, Pitch 0.5mm, Thermal Pad 3.4x3.4mm, IPC High Density)
footprint QFN28_M (QFN, 28-Leads, Body 5x5mm, Pitch 0.5mm, Thermal Pad 3.4x3.4mm, IPC Low Density)
pins: 1 AVDD (power), 2 VDD (power), 3 PA0/T0IN/~{T0OUT}/XIN (io), 4 PA1/T0OUT/XOUT (io), 5 VSS (power), 6 AVSS (power), 7 PA2 (io), 8 PA3 (io), 9 PA4 (io), 10 PA5 (io), 11 PA6/T1IN/~{T1OUT} (io), 12 PC4/LED (io), 13 PC5/LED (io), 14 PA7/T1OUT (io), 15 PC6/LED (io), 16 PC7/LED (io), 17 ~{RESET}/PD0 (io), 18 DBG (io), 19 PC0/ANA4/CINP/LED (io), 20 PC1/ANA5/CINN/LED (io), 21 PC2/ANA6/LED (io), 22 PC3/COUT/LED (io), 23 PB0/ANA0 (io), 24 PB1/ANA1 (io), 25 PB2/ANA2 (io), 26 PB4/ANA7 (io), 27 PB5/VREF (io), 28 PB3/CLKIN/ANA3 (io), 29 Exposed Pad (power)

## Z8F0230QJ020SG
designator U?
Z8 Encore, F0830 Series, 2KB Flash RAM, 256B register RAM, 64B NVDS, 8 ADC Channels, 28-Pin QFN, 0°C to 70°C, Pb-Free; DatasheetVersion: rev11, Dec-2007; PackageVersion: 1/09/2010; PackageReference: QFN28; PackageDescription: 28-Pin Quad Flat No-Lead, 5 x 5 mm Body, 0.5 mm Pitch; ComponentLink1Description: Manufacturer URL; ComponentLink1URL: http://www.zilog.com/
footprint QFN28_N (QFN, 28-Leads, Body 5x5mm, Pitch 0.5mm, Thermal Pad 3.4x3.4mm, IPC Medium Density)
footprint QFN28_L (QFN, 28-Leads, Body 5x5mm, Pitch 0.5mm, Thermal Pad 3.4x3.4mm, IPC High Density)
footprint QFN28_M (QFN, 28-Leads, Body 5x5mm, Pitch 0.5mm, Thermal Pad 3.4x3.4mm, IPC Low Density)
pins: 1 AVDD (power), 2 VDD (power), 3 PA0/T0IN/~{T0OUT}/XIN (io), 4 PA1/T0OUT/XOUT (io), 5 VSS (power), 6 AVSS (power), 7 PA2 (io), 8 PA3 (io), 9 PA4 (io), 10 PA5 (io), 11 PA6/T1IN/~{T1OUT} (io), 12 PC4/LED (io), 13 PC5/LED (io), 14 PA7/T1OUT (io), 15 PC6/LED (io), 16 PC7/LED (io), 17 ~{RESET}/PD0 (io), 18 DBG (io), 19 PC0/ANA4/CINP/LED (io), 20 PC1/ANA5/CINN/LED (io), 21 PC2/ANA6/LED (io), 22 PC3/COUT/LED (io), 23 PB0/ANA0 (io), 24 PB1/ANA1 (io), 25 PB2/ANA2 (io), 26 PB4/ANA7 (io), 27 PB5/VREF (io), 28 PB3/CLKIN/ANA3 (io), 29 Exposed Pad (power)

## Z8F0230SH020EG
designator U?
Z8 Encore, F0830 Series, 2KB Flash RAM, 256B register RAM, 64B NVDS, 7 ADC Channels, 20-Pin SOIC, -40°C to 105°C, Pb-Free; DatasheetVersion: rev11, Dec-2007; PackageVersion: 1/12/2007; PackageReference: SOIC20; PackageDescription: 20-Pin Small Outline Integrated Circuit 1.27 mm Pitch; ComponentLink1Description: Manufacturer URL; ComponentLink1URL: http://www.zilog.com/
footprint SOIC20_N (SOIC, 20-Leads, Body 12.8x7.5mm, Pitch 1.27mm, IPC Medium Density)
footprint SOIC20_L (SOIC, 20-Leads, Body 12.8x7.5mm, Pitch 1.27mm, IPC High Density)
footprint SOIC20_M (SOIC, 20-Leads, Body 12.8x7.5mm, Pitch 1.27mm, IPC Low Density)
pins: 1 PB1/ANA1 (io), 2 PB2/ANA2 (io), 3 PB3/CLKIN/ANA3 (io), 4 VDD (power), 5 PA0/T0IN/~{T0OUT}/XIN (io), 6 PA1/T0OUT/XOUT (io), 7 VSS (power), 8 PA2 (io), 9 PA3 (io), 10 PA4 (io), 11 PA5 (io), 12 PA6/T1IN/~{T1OUT} (io), 13 PA7/T1OUT (io), 14 ~{RESET}/PD0 (io), 15 DBG (io), 16 PC0/ANA4/CINP/LED (io), 17 PC1/ANA5/CINN/LED (io), 18 PC2/ANA6/LED (io), 19 PC3/COUT/LED (io), 20 PB0/ANA0 (io)

## Z8F0230SH020SG
designator U?
Z8 Encore, F0830 Series, 2KB Flash RAM, 256B register RAM, 64B NVDS, 7 ADC Channels, 20-Pin SOIC, 0°C to 70°C, Pb-Free; DatasheetVersion: rev11, Dec-2007; PackageVersion: 1/12/2007; PackageReference: SOIC20; PackageDescription: 20-Pin Small Outline Integrated Circuit 1.27 mm Pitch; ComponentLink1Description: Manufacturer URL; ComponentLink1URL: http://www.zilog.com/
footprint SOIC20_N (SOIC, 20-Leads, Body 12.8x7.5mm, Pitch 1.27mm, IPC Medium Density)
footprint SOIC20_L (SOIC, 20-Leads, Body 12.8x7.5mm, Pitch 1.27mm, IPC High Density)
footprint SOIC20_M (SOIC, 20-Leads, Body 12.8x7.5mm, Pitch 1.27mm, IPC Low Density)
pins: 1 PB1/ANA1 (io), 2 PB2/ANA2 (io), 3 PB3/CLKIN/ANA3 (io), 4 VDD (power), 5 PA0/T0IN/~{T0OUT}/XIN (io), 6 PA1/T0OUT/XOUT (io), 7 VSS (power), 8 PA2 (io), 9 PA3 (io), 10 PA4 (io), 11 PA5 (io), 12 PA6/T1IN/~{T1OUT} (io), 13 PA7/T1OUT (io), 14 ~{RESET}/PD0 (io), 15 DBG (io), 16 PC0/ANA4/CINP/LED (io), 17 PC1/ANA5/CINN/LED (io), 18 PC2/ANA6/LED (io), 19 PC3/COUT/LED (io), 20 PB0/ANA0 (io)

## Z8F0230SJ020EG
designator U?
Z8 Encore, F0830 Series, 2KB Flash RAM, 256B register RAM, 64B NVDS, 8 ADC Channels, 28-Pin SOIC, -40°C to 105°C, Pb-Free; DatasheetVersion: rev11, Dec-2007; PackageVersion: 1/12/2007; PackageReference: SOIC28; PackageDescription: 28-Pin Small Outline Integrated Circuit 1.27 mm Pitch; ComponentLink1Description: Manufacturer URL; ComponentLink1URL: http://www.zilog.com/
footprint SOIC28_N (SOIC, 28-Leads, Body 17.9x7.5mm, Pitch 1.27mm, IPC Medium Density)
footprint SOIC28_L (SOIC, 28-Leads, Body 17.9x7.5mm, Pitch 1.27mm, IPC High Density)
footprint SOIC28_M (SOIC, 28-Leads, Body 17.9x7.5mm, Pitch 1.27mm, IPC Low Density)
pins: 1 PB2/ANA2 (io), 2 PB4/ANA7 (io), 3 PB5/VREF (io), 4 PB3/CLKIN/ANA3 (io), 5 AVDD (power), 6 VDD (power), 7 PA0/T0IN/~{T0OUT}/XIN (io), 8 PA1/T0OUT/XOUT (io), 9 VSS (power), 10 AVSS (power), 11 PA2 (io), 12 PA3 (io), 13 PA4 (io), 14 PA5 (io), 15 PA6/T1IN/~{T1OUT} (io), 16 PC4/LED (io), 17 PC5/LED (io), 18 PA7/T1OUT (io), 19 PC6/LED (io), 20 PC7/LED (io), 21 ~{RESET}/PD0 (io), 22 DBG (io), 23 PC0/ANA4/CINP/LED (io), 24 PC1/ANA5/CINN/LED (io), 25 PC2/ANA6/LED (io), 26 PC3/COUT/LED (io), 27 PB0/ANA0 (io), 28 PB1/ANA1 (io)

## Z8F0230SJ020SG
designator U?
Z8 Encore, F0830 Series, 2KB Flash RAM, 256B register RAM, 64B NVDS, 8 ADC Channels, 28-Pin SOIC, 0°C to 70°C, Pb-Free; DatasheetVersion: rev11, Dec-2007; PackageVersion: 1/12/2007; PackageReference: SOIC28; PackageDescription: 28-Pin Small Outline Integrated Circuit 1.27 mm Pitch; ComponentLink1Description: Manufacturer URL; ComponentLink1URL: http://www.zilog.com/
footprint SOIC28_N (SOIC, 28-Leads, Body 17.9x7.5mm, Pitch 1.27mm, IPC Medium Density)
footprint SOIC28_L (SOIC, 28-Leads, Body 17.9x7.5mm, Pitch 1.27mm, IPC High Density)
footprint SOIC28_M (SOIC, 28-Leads, Body 17.9x7.5mm, Pitch 1.27mm, IPC Low Density)
pins: 1 PB2/ANA2 (io), 2 PB4/ANA7 (io), 3 PB5/VREF (io), 4 PB3/CLKIN/ANA3 (io), 5 AVDD (power), 6 VDD (power), 7 PA0/T0IN/~{T0OUT}/XIN (io), 8 PA1/T0OUT/XOUT (io), 9 VSS (power), 10 AVSS (power), 11 PA2 (io), 12 PA3 (io), 13 PA4 (io), 14 PA5 (io), 15 PA6/T1IN/~{T1OUT} (io), 16 PC4/LED (io), 17 PC5/LED (io), 18 PA7/T1OUT (io), 19 PC6/LED (io), 20 PC7/LED (io), 21 ~{RESET}/PD0 (io), 22 DBG (io), 23 PC0/ANA4/CINP/LED (io), 24 PC1/ANA5/CINN/LED (io), 25 PC2/ANA6/LED (io), 26 PC3/COUT/LED (io), 27 PB0/ANA0 (io), 28 PB1/ANA1 (io)

## Z8F0231HH020EG
designator U?
Z8 Encore, F0830 Series, 2KB Flash RAM, 256B register RAM, 64B NVDS, 20-Pin SSOP, -40°C to 105°C, Pb-Free; DatasheetVersion: rev11, Dec-2007; PackageVersion: 1/12/2007; PackageReference: SSOP20; PackageDescription: 20-Pin Plastic Shrink Small Outline Package 0.65 mm Pitch; ComponentLink1Description: Manufacturer URL; ComponentLink1URL: http://www.zilog.com/
footprint SSOP20_N (SOP, 20-Leads, Body 7.2x5.29mm, Pitch 0.65mm, IPC Medium Density)
footprint SSOP20_L (SOP, 20-Leads, Body 7.2x5.29mm, Pitch 0.65mm, IPC High Density)
footprint SSOP20_M (SOP, 20-Leads, Body 7.2x5.29mm, Pitch 0.65mm, IPC Low Density)
pins: 1 PB1 (io), 2 PB2 (io), 3 PB3/CLKIN (io), 4 VDD (power), 5 PA0/T0IN/~{T0OUT}/XIN (io), 6 PA1/T0OUT/XOUT (io), 7 VSS (power), 8 PA2 (io), 9 PA3 (io), 10 PA4 (io), 11 PA5 (io), 12 PA6/T1IN/~{T1OUT} (io), 13 PA7/T1OUT (io), 14 ~{RESET}/PD0 (io), 15 DBG (io), 16 PC0/CINP/LED (io), 17 PC1/CINN/LED (io), 18 PC2/LED (io), 19 PC3/COUT/LED (io), 20 PB0 (io)

## Z8F0231HH020SG
designator U?
Z8 Encore, F0830 Series, 2KB Flash RAM, 256B register RAM, 64B NVDS, 20-Pin SSOP, 0°C to 70°C, Pb-Free; DatasheetVersion: rev11, Dec-2007; PackageVersion: 1/12/2007; PackageReference: SSOP20; PackageDescription: 20-Pin Plastic Shrink Small Outline Package 0.65 mm Pitch; ComponentLink1Description: Manufacturer URL; ComponentLink1URL: http://www.zilog.com/
footprint SSOP20_N (SOP, 20-Leads, Body 7.2x5.29mm, Pitch 0.65mm, IPC Medium Density)
footprint SSOP20_L (SOP, 20-Leads, Body 7.2x5.29mm, Pitch 0.65mm, IPC High Density)
footprint SSOP20_M (SOP, 20-Leads, Body 7.2x5.29mm, Pitch 0.65mm, IPC Low Density)
pins: 1 PB1 (io), 2 PB2 (io), 3 PB3/CLKIN (io), 4 VDD (power), 5 PA0/T0IN/~{T0OUT}/XIN (io), 6 PA1/T0OUT/XOUT (io), 7 VSS (power), 8 PA2 (io), 9 PA3 (io), 10 PA4 (io), 11 PA5 (io), 12 PA6/T1IN/~{T1OUT} (io), 13 PA7/T1OUT (io), 14 ~{RESET}/PD0 (io), 15 DBG (io), 16 PC0/CINP/LED (io), 17 PC1/CINN/LED (io), 18 PC2/LED (io), 19 PC3/COUT/LED (io), 20 PB0 (io)

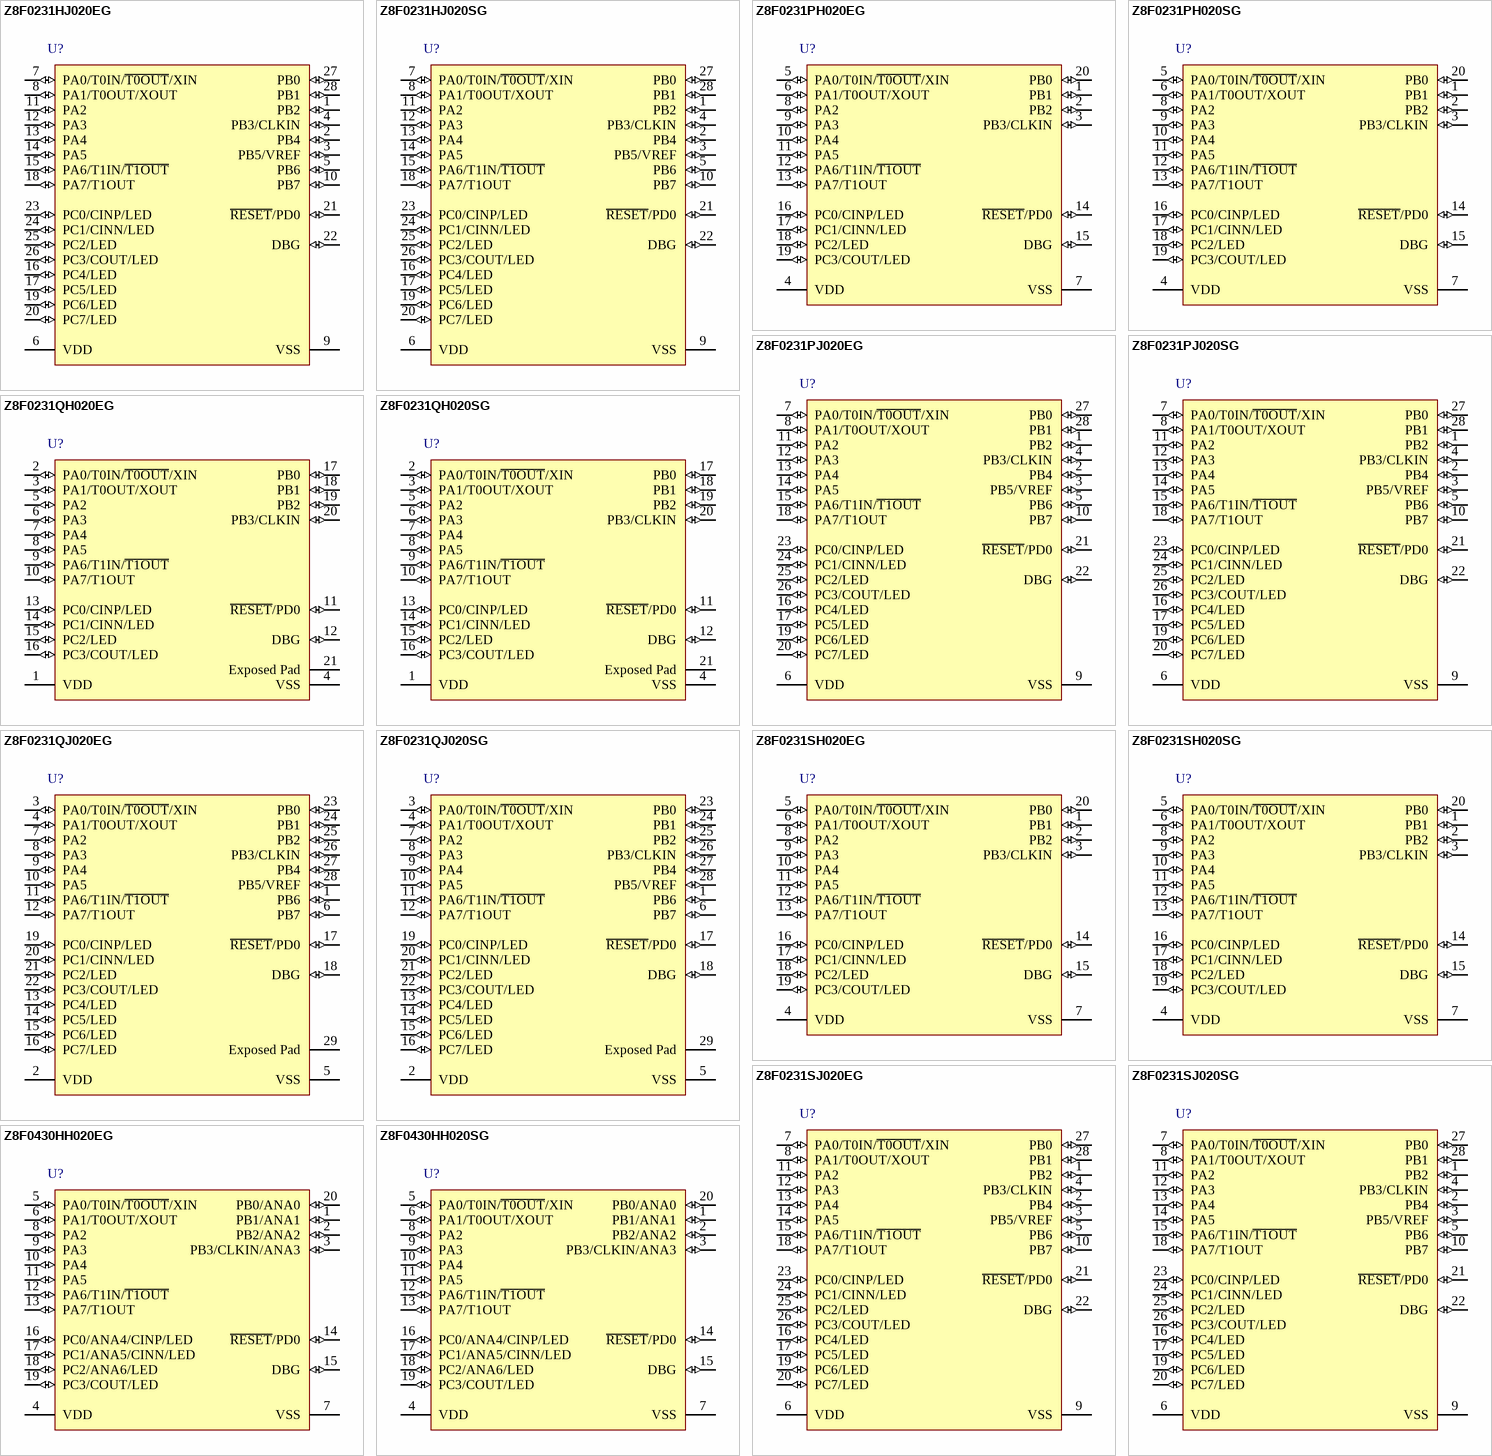
[diagram p5: symbols Z8F0231HJ020EG to Z8F0430HH020SG]

## Z8F0231HJ020EG
designator U?
Z8 Encore, F0830 Series, 2KB Flash RAM, 256B register RAM, 64B NVDS, 28-Pin SSOP, -40°C to 105°C, Pb-Free; DatasheetVersion: rev11, Dec-2007; PackageVersion: 1/12/2007; PackageReference: SSOP28; PackageDescription: 28-Pin Plastic Shrink Small Outline Package 0.65 mm Pitch; ComponentLink1Description: Manufacturer URL; ComponentLink1URL: http://www.zilog.com/
footprint SSOP28_N (SOP, 28-Leads, Body 10.2x5.29mm, Pitch 0.65mm, IPC Medium Density)
footprint SSOP28_L (SOP, 28-Leads, Body 10.2x5.29mm, Pitch 0.65mm, IPC High Density)
footprint SSOP28_M (SOP, 28-Leads, Body 10.2x5.29mm, Pitch 0.65mm, IPC Low Density)
pins: 1 PB2 (io), 2 PB4 (io), 3 PB5/VREF (io), 4 PB3/CLKIN (io), 5 PB6 (io), 6 VDD (power), 7 PA0/T0IN/~{T0OUT}/XIN (io), 8 PA1/T0OUT/XOUT (io), 9 VSS (power), 10 PB7 (io), 11 PA2 (io), 12 PA3 (io), 13 PA4 (io), 14 PA5 (io), 15 PA6/T1IN/~{T1OUT} (io), 16 PC4/LED (io), 17 PC5/LED (io), 18 PA7/T1OUT (io), 19 PC6/LED (io), 20 PC7/LED (io), 21 ~{RESET}/PD0 (io), 22 DBG (io), 23 PC0/CINP/LED (io), 24 PC1/CINN/LED (io), 25 PC2/LED (io), 26 PC3/COUT/LED (io), 27 PB0 (io), 28 PB1 (io)

## Z8F0231HJ020SG
designator U?
Z8 Encore, F0830 Series, 2KB Flash RAM, 256B register RAM, 64B NVDS, 28-Pin SSOP, 0°C to 70°C, Pb-Free; DatasheetVersion: rev11, Dec-2007; PackageVersion: 1/12/2007; PackageReference: SSOP28; PackageDescription: 28-Pin Plastic Shrink Small Outline Package 0.65 mm Pitch; ComponentLink1Description: Manufacturer URL; ComponentLink1URL: http://www.zilog.com/
footprint SSOP28_N (SOP, 28-Leads, Body 10.2x5.29mm, Pitch 0.65mm, IPC Medium Density)
footprint SSOP28_L (SOP, 28-Leads, Body 10.2x5.29mm, Pitch 0.65mm, IPC High Density)
footprint SSOP28_M (SOP, 28-Leads, Body 10.2x5.29mm, Pitch 0.65mm, IPC Low Density)
pins: 1 PB2 (io), 2 PB4 (io), 3 PB5/VREF (io), 4 PB3/CLKIN (io), 5 PB6 (io), 6 VDD (power), 7 PA0/T0IN/~{T0OUT}/XIN (io), 8 PA1/T0OUT/XOUT (io), 9 VSS (power), 10 PB7 (io), 11 PA2 (io), 12 PA3 (io), 13 PA4 (io), 14 PA5 (io), 15 PA6/T1IN/~{T1OUT} (io), 16 PC4/LED (io), 17 PC5/LED (io), 18 PA7/T1OUT (io), 19 PC6/LED (io), 20 PC7/LED (io), 21 ~{RESET}/PD0 (io), 22 DBG (io), 23 PC0/CINP/LED (io), 24 PC1/CINN/LED (io), 25 PC2/LED (io), 26 PC3/COUT/LED (io), 27 PB0 (io), 28 PB1 (io)

## Z8F0231PH020EG
designator U?
Z8 Encore, F0830 Series, 2KB Flash RAM, 256B register RAM, 64B NVDS, 20-Pin PDIP, -40°C to 105°C, Pb-Free; DatasheetVersion: rev11, Dec-2007; PackageVersion: 1/12/2007; PackageReference: PDIP20; PackageDescription: 20-Pin Plastic Dual Inline Package, Row Spacing 7.62 mm, Pitch 2.54 mm; ComponentLink1Description: Manufacturer URL; ComponentLink1URL: http://www.zilog.com/
footprint PDIP20 (DIP, 20-Leads, Row Spacing 7.62mm, Pitch 2.54mm, Body 26.2x6.4mm)
pins: 1 PB1 (io), 2 PB2 (io), 3 PB3/CLKIN (io), 4 VDD (power), 5 PA0/T0IN/~{T0OUT}/XIN (io), 6 PA1/T0OUT/XOUT (io), 7 VSS (power), 8 PA2 (io), 9 PA3 (io), 10 PA4 (io), 11 PA5 (io), 12 PA6/T1IN/~{T1OUT} (io), 13 PA7/T1OUT (io), 14 ~{RESET}/PD0 (io), 15 DBG (io), 16 PC0/CINP/LED (io), 17 PC1/CINN/LED (io), 18 PC2/LED (io), 19 PC3/COUT/LED (io), 20 PB0 (io)

## Z8F0231PH020SG
designator U?
Z8 Encore, F0830 Series, 2KB Flash RAM, 256B register RAM, 64B NVDS, 20-Pin PDIP, 0°C to 70°C, Pb-Free; DatasheetVersion: rev11, Dec-2007; PackageVersion: 1/12/2007; PackageReference: PDIP20; PackageDescription: 20-Pin Plastic Dual Inline Package, Row Spacing 7.62 mm, Pitch 2.54 mm; ComponentLink1Description: Manufacturer URL; ComponentLink1URL: http://www.zilog.com/
footprint PDIP20 (DIP, 20-Leads, Row Spacing 7.62mm, Pitch 2.54mm, Body 26.2x6.4mm)
pins: 1 PB1 (io), 2 PB2 (io), 3 PB3/CLKIN (io), 4 VDD (power), 5 PA0/T0IN/~{T0OUT}/XIN (io), 6 PA1/T0OUT/XOUT (io), 7 VSS (power), 8 PA2 (io), 9 PA3 (io), 10 PA4 (io), 11 PA5 (io), 12 PA6/T1IN/~{T1OUT} (io), 13 PA7/T1OUT (io), 14 ~{RESET}/PD0 (io), 15 DBG (io), 16 PC0/CINP/LED (io), 17 PC1/CINN/LED (io), 18 PC2/LED (io), 19 PC3/COUT/LED (io), 20 PB0 (io)

## Z8F0231PJ020EG
designator U?
Z8 Encore, F0830 Series, 2KB Flash RAM, 256B register RAM, 64B NVDS, 28-Pin PDIP, -40°C to 105°C, Pb-Free; DatasheetVersion: rev11, Dec-2007; PackageVersion: 1/12/2007; PackageReference: PDIP28; PackageDescription: 28-Pin Plastic Dual Inline Package, Row Spacing 15.24 mm, Pitch 2.54 mm; ComponentLink1Description: Manufacturer URL; ComponentLink1URL: http://www.zilog.com/
footprint PDIP28 (DIP, 28-Leads, Row Spacing 15.24mm, Pitch 2.54mm, Body 37x13.8mm)
pins: 1 PB2 (io), 2 PB4 (io), 3 PB5/VREF (io), 4 PB3/CLKIN (io), 5 PB6 (io), 6 VDD (power), 7 PA0/T0IN/~{T0OUT}/XIN (io), 8 PA1/T0OUT/XOUT (io), 9 VSS (power), 10 PB7 (io), 11 PA2 (io), 12 PA3 (io), 13 PA4 (io), 14 PA5 (io), 15 PA6/T1IN/~{T1OUT} (io), 16 PC4/LED (io), 17 PC5/LED (io), 18 PA7/T1OUT (io), 19 PC6/LED (io), 20 PC7/LED (io), 21 ~{RESET}/PD0 (io), 22 DBG (io), 23 PC0/CINP/LED (io), 24 PC1/CINN/LED (io), 25 PC2/LED (io), 26 PC3/COUT/LED (io), 27 PB0 (io), 28 PB1 (io)

## Z8F0231PJ020SG
designator U?
Z8 Encore, F0830 Series, 2KB Flash RAM, 256B register RAM, 64B NVDS, 28-Pin PDIP, 0°C to 70°C, Pb-Free; DatasheetVersion: rev11, Dec-2007; PackageVersion: 1/12/2007; PackageReference: PDIP28; PackageDescription: 28-Pin Plastic Dual Inline Package, Row Spacing 15.24 mm, Pitch 2.54 mm; ComponentLink1Description: Manufacturer URL; ComponentLink1URL: http://www.zilog.com/
footprint PDIP28 (DIP, 28-Leads, Row Spacing 15.24mm, Pitch 2.54mm, Body 37x13.8mm)
pins: 1 PB2 (io), 2 PB4 (io), 3 PB5/VREF (io), 4 PB3/CLKIN (io), 5 PB6 (io), 6 VDD (power), 7 PA0/T0IN/~{T0OUT}/XIN (io), 8 PA1/T0OUT/XOUT (io), 9 VSS (power), 10 PB7 (io), 11 PA2 (io), 12 PA3 (io), 13 PA4 (io), 14 PA5 (io), 15 PA6/T1IN/~{T1OUT} (io), 16 PC4/LED (io), 17 PC5/LED (io), 18 PA7/T1OUT (io), 19 PC6/LED (io), 20 PC7/LED (io), 21 ~{RESET}/PD0 (io), 22 DBG (io), 23 PC0/CINP/LED (io), 24 PC1/CINN/LED (io), 25 PC2/LED (io), 26 PC3/COUT/LED (io), 27 PB0 (io), 28 PB1 (io)

## Z8F0231QH020EG
designator U?
Z8 Encore, F0830 Series, 2KB Flash RAM, 256B register RAM, 64B NVDS, 20-Pin QFN, -40°C to 105°C, Pb-Free; DatasheetVersion: rev11, Dec-2007; PackageVersion: 1/12/2007; PackageReference: QFN20; PackageDescription: 20-Pin Quad Flat No-Lead 0.65 mm Pitch; ComponentLink1Description: Manufacturer URL; ComponentLink1URL: http://www.zilog.com/
footprint QFN20_N (QFN, 20-Leads, Body 5x5mm, Pitch 0.65mm, Thermal Pad 3.4x3.4mm, IPC Medium Density)
footprint QFN20_L (QFN, 20-Leads, Body 5x5mm, Pitch 0.65mm, Thermal Pad 3.4x3.4mm, IPC High Density)
footprint QFN20_M (QFN, 20-Leads, Body 5x5mm, Pitch 0.65mm, Thermal Pad 3.4x3.4mm, IPC Low Density)
pins: 1 VDD (power), 2 PA0/T0IN/~{T0OUT}/XIN (io), 3 PA1/T0OUT/XOUT (io), 4 VSS (power), 5 PA2 (io), 6 PA3 (io), 7 PA4 (io), 8 PA5 (io), 9 PA6/T1IN/~{T1OUT} (io), 10 PA7/T1OUT (io), 11 ~{RESET}/PD0 (io), 12 DBG (io), 13 PC0/CINP/LED (io), 14 PC1/CINN/LED (io), 15 PC2/LED (io), 16 PC3/COUT/LED (io), 17 PB0 (io), 18 PB1 (io), 19 PB2 (io), 20 PB3/CLKIN (io), 21 Exposed Pad (power)

## Z8F0231QH020SG
designator U?
Z8 Encore, F0830 Series, 2KB Flash RAM, 256B register RAM, 64B NVDS, 20-Pin QFN, 0°C to 70°C, Pb-Free; DatasheetVersion: rev11, Dec-2007; PackageVersion: 1/12/2007; PackageReference: QFN20; PackageDescription: 20-Pin Quad Flat No-Lead 0.65 mm Pitch; ComponentLink1Description: Manufacturer URL; ComponentLink1URL: http://www.zilog.com/
footprint QFN20_N (QFN, 20-Leads, Body 5x5mm, Pitch 0.65mm, Thermal Pad 3.4x3.4mm, IPC Medium Density)
footprint QFN20_L (QFN, 20-Leads, Body 5x5mm, Pitch 0.65mm, Thermal Pad 3.4x3.4mm, IPC High Density)
footprint QFN20_M (QFN, 20-Leads, Body 5x5mm, Pitch 0.65mm, Thermal Pad 3.4x3.4mm, IPC Low Density)
pins: 1 VDD (power), 2 PA0/T0IN/~{T0OUT}/XIN (io), 3 PA1/T0OUT/XOUT (io), 4 VSS (power), 5 PA2 (io), 6 PA3 (io), 7 PA4 (io), 8 PA5 (io), 9 PA6/T1IN/~{T1OUT} (io), 10 PA7/T1OUT (io), 11 ~{RESET}/PD0 (io), 12 DBG (io), 13 PC0/CINP/LED (io), 14 PC1/CINN/LED (io), 15 PC2/LED (io), 16 PC3/COUT/LED (io), 17 PB0 (io), 18 PB1 (io), 19 PB2 (io), 20 PB3/CLKIN (io), 21 Exposed Pad (power)

## Z8F0231QJ020EG
designator U?
Z8 Encore, F0830 Series, 2KB Flash RAM, 256B register RAM, 64B NVDS, 28-Pin QFN, -40°C to 105°C, Pb-Free; DatasheetVersion: rev11, Dec-2007; PackageVersion: 1/09/2010; PackageReference: QFN28; PackageDescription: 28-Pin Quad Flat No-Lead, 5 x 5 mm Body, 0.5 mm Pitch; ComponentLink1Description: Manufacturer URL; ComponentLink1URL: http://www.zilog.com/
footprint QFN28_N (QFN, 28-Leads, Body 5x5mm, Pitch 0.5mm, Thermal Pad 3.4x3.4mm, IPC Medium Density)
footprint QFN28_L (QFN, 28-Leads, Body 5x5mm, Pitch 0.5mm, Thermal Pad 3.4x3.4mm, IPC High Density)
footprint QFN28_M (QFN, 28-Leads, Body 5x5mm, Pitch 0.5mm, Thermal Pad 3.4x3.4mm, IPC Low Density)
pins: 1 PB6 (io), 2 VDD (power), 3 PA0/T0IN/~{T0OUT}/XIN (io), 4 PA1/T0OUT/XOUT (io), 5 VSS (power), 6 PB7 (io), 7 PA2 (io), 8 PA3 (io), 9 PA4 (io), 10 PA5 (io), 11 PA6/T1IN/~{T1OUT} (io), 12 PA7/T1OUT (io), 13 PC4/LED (io), 14 PC5/LED (io), 15 PC6/LED (io), 16 PC7/LED (io), 17 ~{RESET}/PD0 (io), 18 DBG (io), 19 PC0/CINP/LED (io), 20 PC1/CINN/LED (io), 21 PC2/LED (io), 22 PC3/COUT/LED (io), 23 PB0 (io), 24 PB1 (io), 25 PB2 (io), 26 PB3/CLKIN (io), 27 PB4 (io), 28 PB5/VREF (io), 29 Exposed Pad (power)

## Z8F0231QJ020SG
designator U?
Z8 Encore, F0830 Series, 2KB Flash RAM, 256B register RAM, 64B NVDS, 28-Pin QFN, 0°C to 70°C, Pb-Free; DatasheetVersion: rev11, Dec-2007; PackageVersion: 1/09/2010; PackageReference: QFN28; PackageDescription: 28-Pin Quad Flat No-Lead, 5 x 5 mm Body, 0.5 mm Pitch; ComponentLink1Description: Manufacturer URL; ComponentLink1URL: http://www.zilog.com/
footprint QFN28_N (QFN, 28-Leads, Body 5x5mm, Pitch 0.5mm, Thermal Pad 3.4x3.4mm, IPC Medium Density)
footprint QFN28_L (QFN, 28-Leads, Body 5x5mm, Pitch 0.5mm, Thermal Pad 3.4x3.4mm, IPC High Density)
footprint QFN28_M (QFN, 28-Leads, Body 5x5mm, Pitch 0.5mm, Thermal Pad 3.4x3.4mm, IPC Low Density)
pins: 1 PB6 (io), 2 VDD (power), 3 PA0/T0IN/~{T0OUT}/XIN (io), 4 PA1/T0OUT/XOUT (io), 5 VSS (power), 6 PB7 (io), 7 PA2 (io), 8 PA3 (io), 9 PA4 (io), 10 PA5 (io), 11 PA6/T1IN/~{T1OUT} (io), 12 PA7/T1OUT (io), 13 PC4/LED (io), 14 PC5/LED (io), 15 PC6/LED (io), 16 PC7/LED (io), 17 ~{RESET}/PD0 (io), 18 DBG (io), 19 PC0/CINP/LED (io), 20 PC1/CINN/LED (io), 21 PC2/LED (io), 22 PC3/COUT/LED (io), 23 PB0 (io), 24 PB1 (io), 25 PB2 (io), 26 PB3/CLKIN (io), 27 PB4 (io), 28 PB5/VREF (io), 29 Exposed Pad (power)

## Z8F0231SH020EG
designator U?
Z8 Encore, F0830 Series, 2KB Flash RAM, 256B register RAM, 64B NVDS, 20-Pin SOIC, -40°C to 105°C, Pb-Free; DatasheetVersion: rev11, Dec-2007; PackageVersion: 1/12/2007; PackageReference: SOIC20; PackageDescription: 20-Pin Small Outline Integrated Circuit 1.27 mm Pitch; ComponentLink1Description: Manufacturer URL; ComponentLink1URL: http://www.zilog.com/
footprint SOIC20_N (SOIC, 20-Leads, Body 12.8x7.5mm, Pitch 1.27mm, IPC Medium Density)
footprint SOIC20_L (SOIC, 20-Leads, Body 12.8x7.5mm, Pitch 1.27mm, IPC High Density)
footprint SOIC20_M (SOIC, 20-Leads, Body 12.8x7.5mm, Pitch 1.27mm, IPC Low Density)
pins: 1 PB1 (io), 2 PB2 (io), 3 PB3/CLKIN (io), 4 VDD (power), 5 PA0/T0IN/~{T0OUT}/XIN (io), 6 PA1/T0OUT/XOUT (io), 7 VSS (power), 8 PA2 (io), 9 PA3 (io), 10 PA4 (io), 11 PA5 (io), 12 PA6/T1IN/~{T1OUT} (io), 13 PA7/T1OUT (io), 14 ~{RESET}/PD0 (io), 15 DBG (io), 16 PC0/CINP/LED (io), 17 PC1/CINN/LED (io), 18 PC2/LED (io), 19 PC3/COUT/LED (io), 20 PB0 (io)

## Z8F0231SH020SG
designator U?
Z8 Encore, F0830 Series, 2KB Flash RAM, 256B register RAM, 64B NVDS, 20-Pin SOIC, 0°C to 70°C, Pb-Free; DatasheetVersion: rev11, Dec-2007; PackageVersion: 1/12/2007; PackageReference: SOIC20; PackageDescription: 20-Pin Small Outline Integrated Circuit 1.27 mm Pitch; ComponentLink1Description: Manufacturer URL; ComponentLink1URL: http://www.zilog.com/
footprint SOIC20_N (SOIC, 20-Leads, Body 12.8x7.5mm, Pitch 1.27mm, IPC Medium Density)
footprint SOIC20_L (SOIC, 20-Leads, Body 12.8x7.5mm, Pitch 1.27mm, IPC High Density)
footprint SOIC20_M (SOIC, 20-Leads, Body 12.8x7.5mm, Pitch 1.27mm, IPC Low Density)
pins: 1 PB1 (io), 2 PB2 (io), 3 PB3/CLKIN (io), 4 VDD (power), 5 PA0/T0IN/~{T0OUT}/XIN (io), 6 PA1/T0OUT/XOUT (io), 7 VSS (power), 8 PA2 (io), 9 PA3 (io), 10 PA4 (io), 11 PA5 (io), 12 PA6/T1IN/~{T1OUT} (io), 13 PA7/T1OUT (io), 14 ~{RESET}/PD0 (io), 15 DBG (io), 16 PC0/CINP/LED (io), 17 PC1/CINN/LED (io), 18 PC2/LED (io), 19 PC3/COUT/LED (io), 20 PB0 (io)

## Z8F0231SJ020EG
designator U?
Z8 Encore, F0830 Series, 2KB Flash RAM, 256B register RAM, 64B NVDS, 28-Pin SOIC, -40°C to 105°C, Pb-Free; DatasheetVersion: rev11, Dec-2007; PackageVersion: 1/12/2007; PackageReference: SOIC28; PackageDescription: 28-Pin Small Outline Integrated Circuit 1.27 mm Pitch; ComponentLink1Description: Manufacturer URL; ComponentLink1URL: http://www.zilog.com/
footprint SOIC28_N (SOIC, 28-Leads, Body 17.9x7.5mm, Pitch 1.27mm, IPC Medium Density)
footprint SOIC28_L (SOIC, 28-Leads, Body 17.9x7.5mm, Pitch 1.27mm, IPC High Density)
footprint SOIC28_M (SOIC, 28-Leads, Body 17.9x7.5mm, Pitch 1.27mm, IPC Low Density)
pins: 1 PB2 (io), 2 PB4 (io), 3 PB5/VREF (io), 4 PB3/CLKIN (io), 5 PB6 (io), 6 VDD (power), 7 PA0/T0IN/~{T0OUT}/XIN (io), 8 PA1/T0OUT/XOUT (io), 9 VSS (power), 10 PB7 (io), 11 PA2 (io), 12 PA3 (io), 13 PA4 (io), 14 PA5 (io), 15 PA6/T1IN/~{T1OUT} (io), 16 PC4/LED (io), 17 PC5/LED (io), 18 PA7/T1OUT (io), 19 PC6/LED (io), 20 PC7/LED (io), 21 ~{RESET}/PD0 (io), 22 DBG (io), 23 PC0/CINP/LED (io), 24 PC1/CINN/LED (io), 25 PC2/LED (io), 26 PC3/COUT/LED (io), 27 PB0 (io), 28 PB1 (io)